# Altium schematic symbol library devices.SCHLIB: 305 symbols (part 5 of 5)
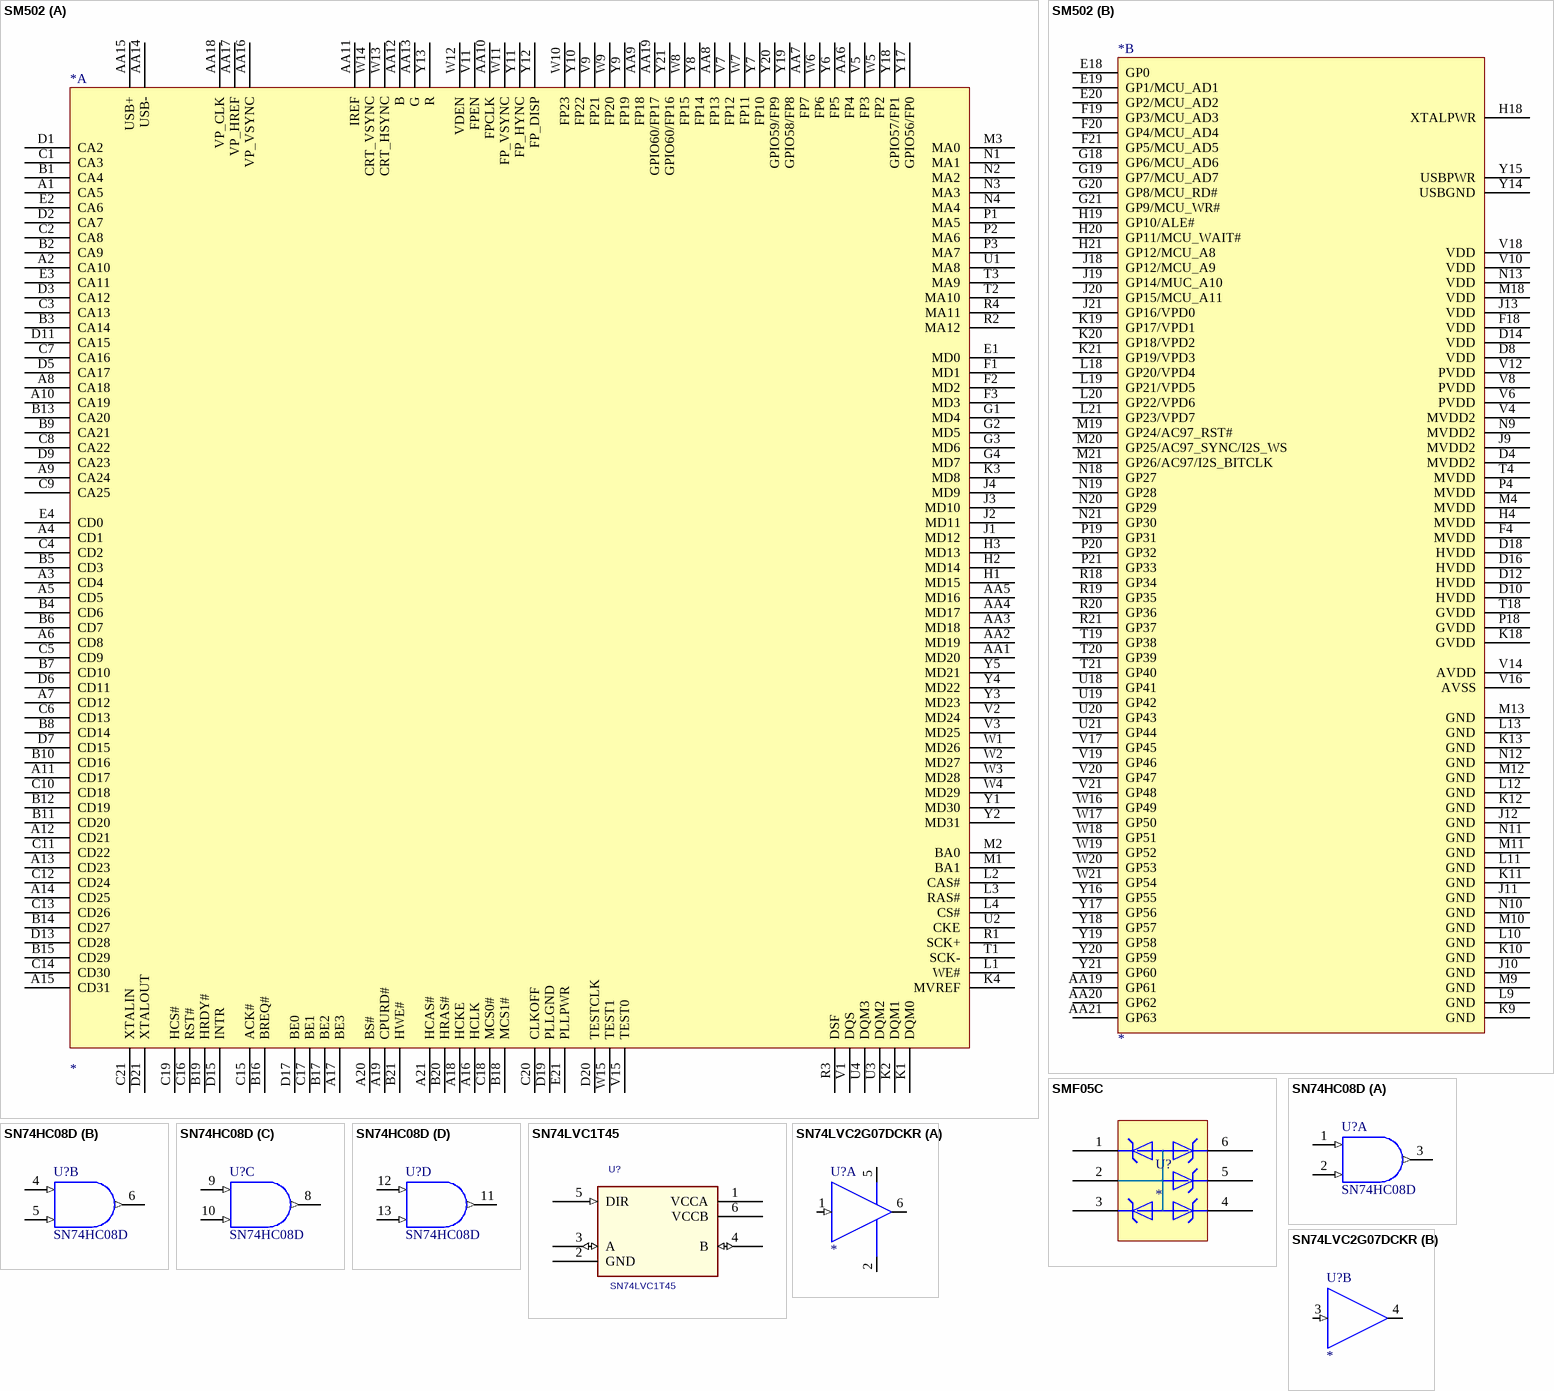
[diagram p53: symbols SM502 to SN74LVC2G07DCKR]

## SM502
designator *
part A pins: A1 CA5, A2 CA10, A3 CD4, A4 CD1, A5 CD5, A6 CD8, A7 CD12, A8 CA18, A9 CA24, A10 CA19, A11 CD17, A12 CD21, A13 CD23, A14 CD25, A15 CD31, A16 HCLK, A17 BE3, A18 HCKE, A19 CPURD#, A20 BS#, A21 HCAS#, AA1 MD20, AA2 MD19, AA3 MD18, AA4 MD17, AA5 MD16, AA6 FP4, AA7 FP7, AA8 FP13, AA9 FP18, AA10 FPCLK, AA11 IREF, AA12 B, AA13 G, AA14 USB-, AA15 USB+, AA16 VP_VSYNC, AA17 VP_HREF, AA18 VP_CLK, AA19 GPIO60/FP17, B1 CA4, B2 CA9, B3 CA14, B4 CD6, B5 CD3, B6 CD7, B7 CD10, B8 CD14, B9 CA21, B10 CD16, B11 CD20, B12 CD19, B13 CA20, B14 CD27, B15 CD29, B16 BREQ#, B17 BE2, B18 MCS1#, B19 HRDY#, B20 HRAS#, B21 HWE#, C1 CA3, C2 CA8, C3 CA13, C4 CD2, C5 CD9, C6 CD13, C7 CA16, C8 CA22, C9 CA25, C10 CD18, C11 CD22, C12 CD24, C13 CD26, C14 CD30, C15 ACK#, C16 RST#, C17 BE1, C18 MCS0#, C19 HCS#, C20 CLKOFF, C21 XTALIN, D1 CA2, D2 CA7, D3 CA12, D5 CA17, D6 CD11, D7 CD15, D9 CA23, D11 CA15, D13 CD28, D15 INTR, D17 BE0, D19 PLLGND, D20 TESTCLK, D21 XTALOUT, E1 MD0, E2 CA6, E3 CA11, E4 CD0, E21 PLLPWR, F1 MD1, F2 MD2, F3 MD3, G1 MD4, G2 MD5, G3 MD6, G4 MD7, H1 MD15, H2 MD14, H3 MD13, J1 MD12, J2 MD11, J3 MD10, J4 MD9, K1 DQM0, K2 DQM1, K3 MD8, K4 MVREF, L1 WE#, L2 CAS#, L3 RAS#, L4 CS#, M1 BA1, M2 BA0, M3 MA0, N1 MA1, N2 MA2, N3 MA3, N4 MA4, P1 MA5, P2 MA6, P3 MA7, R1 SCK+, R2 MA12, R3 DSF, R4 MA11, T1 SCK-, T2 MA10, T3 MA9, U1 MA8, U2 CKE, U3 DQM2, U4 DQM3, V1 DQS, V2 MD24, V3 MD25, V5 FP3, V7 FP12, V9 FP21, V11 FPEN, V15 TEST0, W1 MD26, W2 MD27, W3 MD28, W4 MD29, W5 FP2, W6 FP6, W7 FP11, W8 FP15, W9 FP20, W10 FP23, W11 FP_VSYNC, W12 VDEN, W13 CRT_HSYNC, W14 CRT_VSYNC, W15 TEST1, Y1 MD30, Y2 MD31, Y3 MD23, Y4 MD22, Y5 MD21, Y6 FP5, Y7 FP10, Y8 FP14, Y9 FP19, Y10 FP22, Y11 FP_HYNC, Y12 FP_DISP, Y13 R, Y17 GPIO56/FP0, Y18 GPIO57/FP1, Y19 GPIO58/FP8, Y20 GPIO59/FP9, Y21 GPIO60/FP16
part B pins: AA19 GP61, AA20 GP62, AA21 GP63, D4 MVDD2, D8 VDD, D10 HVDD, D12 HVDD, D14 VDD, D16 HVDD, D18 HVDD, E18 GP0, E19 GP1/MCU_AD1, E20 GP2/MCU_AD2, F4 MVDD, F18 VDD, F19 GP3/MCU_AD3, F20 GP4/MCU_AD4, F21 GP5/MCU_AD5, G18 GP6/MCU_AD6, G19 GP7/MCU_AD7, G20 GP8/MCU_RD#, G21 GP9/MCU_WR#, H4 MVDD, H18 XTALPWR, H19 GP10/ALE#, H20 GP11/MCU_WAIT#, H21 GP12/MCU_A8, J9 MVDD2, J10 GND, J11 GND, J12 GND, J13 VDD, J18 GP12/MCU_A9, J19 GP14/MUC_A10, J20 GP15/MCU_A11, J21 GP16/VPD0, K9 GND, K10 GND, K11 GND, K12 GND, K13 GND, K18 GVDD, K19 GP17/VPD1, K20 GP18/VPD2, K21 GP19/VPD3, L9 GND, L10 GND, L11 GND, L12 GND, L13 GND, L18 GP20/VPD4, L19 GP21/VPD5, L20 GP22/VPD6, L21 GP23/VPD7, M4 MVDD, M9 GND, M10 GND, M11 GND, M12 GND, M13 GND, M18 VDD, M19 GP24/AC97_RST#, M20 GP25/AC97_SYNC/I2S_WS, M21 GP26/AC97/I2S_BITCLK, N9 MVDD2, N10 GND, N11 GND, N12 GND, N13 VDD, N18 GP27, N19 GP28, N20 GP29, N21 GP30, P4 MVDD, P18 GVDD, P19 GP31, P20 GP32, P21 GP33, R18 GP34, R19 GP35, R20 GP36, R21 GP37, T4 MVDD, T18 GVDD, T19 GP38, T20 GP39, T21 GP40, U18 GP41, U19 GP42, U20 GP43, U21 GP44, V4 MVDD2, V6 PVDD, V8 PVDD, V10 VDD, V12 PVDD, V14 AVDD, V16 AVSS, V17 GP45, V18 VDD, V19 GP46, V20 GP47, V21 GP48, W16 GP49, W17 GP50, W18 GP51, W19 GP52, W20 GP53, W21 GP54, Y14 USBGND, Y15 USBPWR, Y16 GP55, Y17 GP56, Y18 GP57, Y19 GP58, Y20 GP59, Y21 GP60

## SMF05C
designator U?
pins: 1, 2, 3, 4, 5, 6

## SN74HC08D
designator U?
Quadruple 2-Input Positive-AND Gate; Published: 8-Jun-2000; LatestRevisionDate: 13-Apr-2006; LatestRevisionNote: IPC-7351 Footprint Added.; DatasheetVersion: May-1997; PackageVersion: Jan-1998; PackageReference: D014; Publisher: Altium Limited; PackageDescription: 14-Pin Small Outline Integrated Circuit 1.27 mm Pitch; Code_IPC: SOIC127P600-14; ComponentLink1Description: Manufacturer Link; ComponentLink1URL: http://www.ti.com/; ComponentLink2Description: Datasheet; ComponentLink2URL: http://www-s.ti.com/sc/ds/SN74HC08.pdf
footprint D014_N (SOIC, 14-Leads, Body 8.7x3.9mm, Pitch 1.27mm, IPC Medium Density)
footprint D014_L (SOIC, 14-Leads, Body 8.7x3.9mm, Pitch 1.27mm, IPC High Density)
footprint D014_M (SOIC, 14-Leads, Body 8.7x3.9mm, Pitch 1.27mm, IPC Low Density)
3D model D014 (14-Pin Small Outline Integrated Circuit 1.27 mm Pitch)
signal-integrity model SN74HC08D
pins on every part: 7 GND (power) hidden to GND, 14 VCC (power) hidden to VCC
part A pins: 1 A (in), 2 B (in), 3 Y (out)
part B pins: 4 A (in), 5 B (in), 6 Y (out)
part C pins: 8 Y (out), 9 A (in), 10 B (in)
part D pins: 11 Y (out), 12 A (in), 13 B (in)

## SN74LVC1T45
designator U?
IC XCVR 1BIT 1.65-5.5V; AGILE_PN: 312-75172; MFG_NAME01: TEXAS INSTRUMENTS; MFG_PN01: SN74LVC1T45DCKR; CAD_APPROVED: Yes; ROHS: Yes; HEIGHT: 1.1MM
pins: 1 VCCA (power), 2 GND (power), 3 A (io), 4 B (io), 5 DIR (in), 6 VCCB (power)

## SN74LVC2G07DCKR
designator U?
TN: 252-0271-000; CLASS: IC
footprint TBD
part A pins: 1 1A (in), 2 GND (power), 5 VCC (power), 6 1Y (oc)
part B pins: 3 2A (in), 4 2Y (oc)

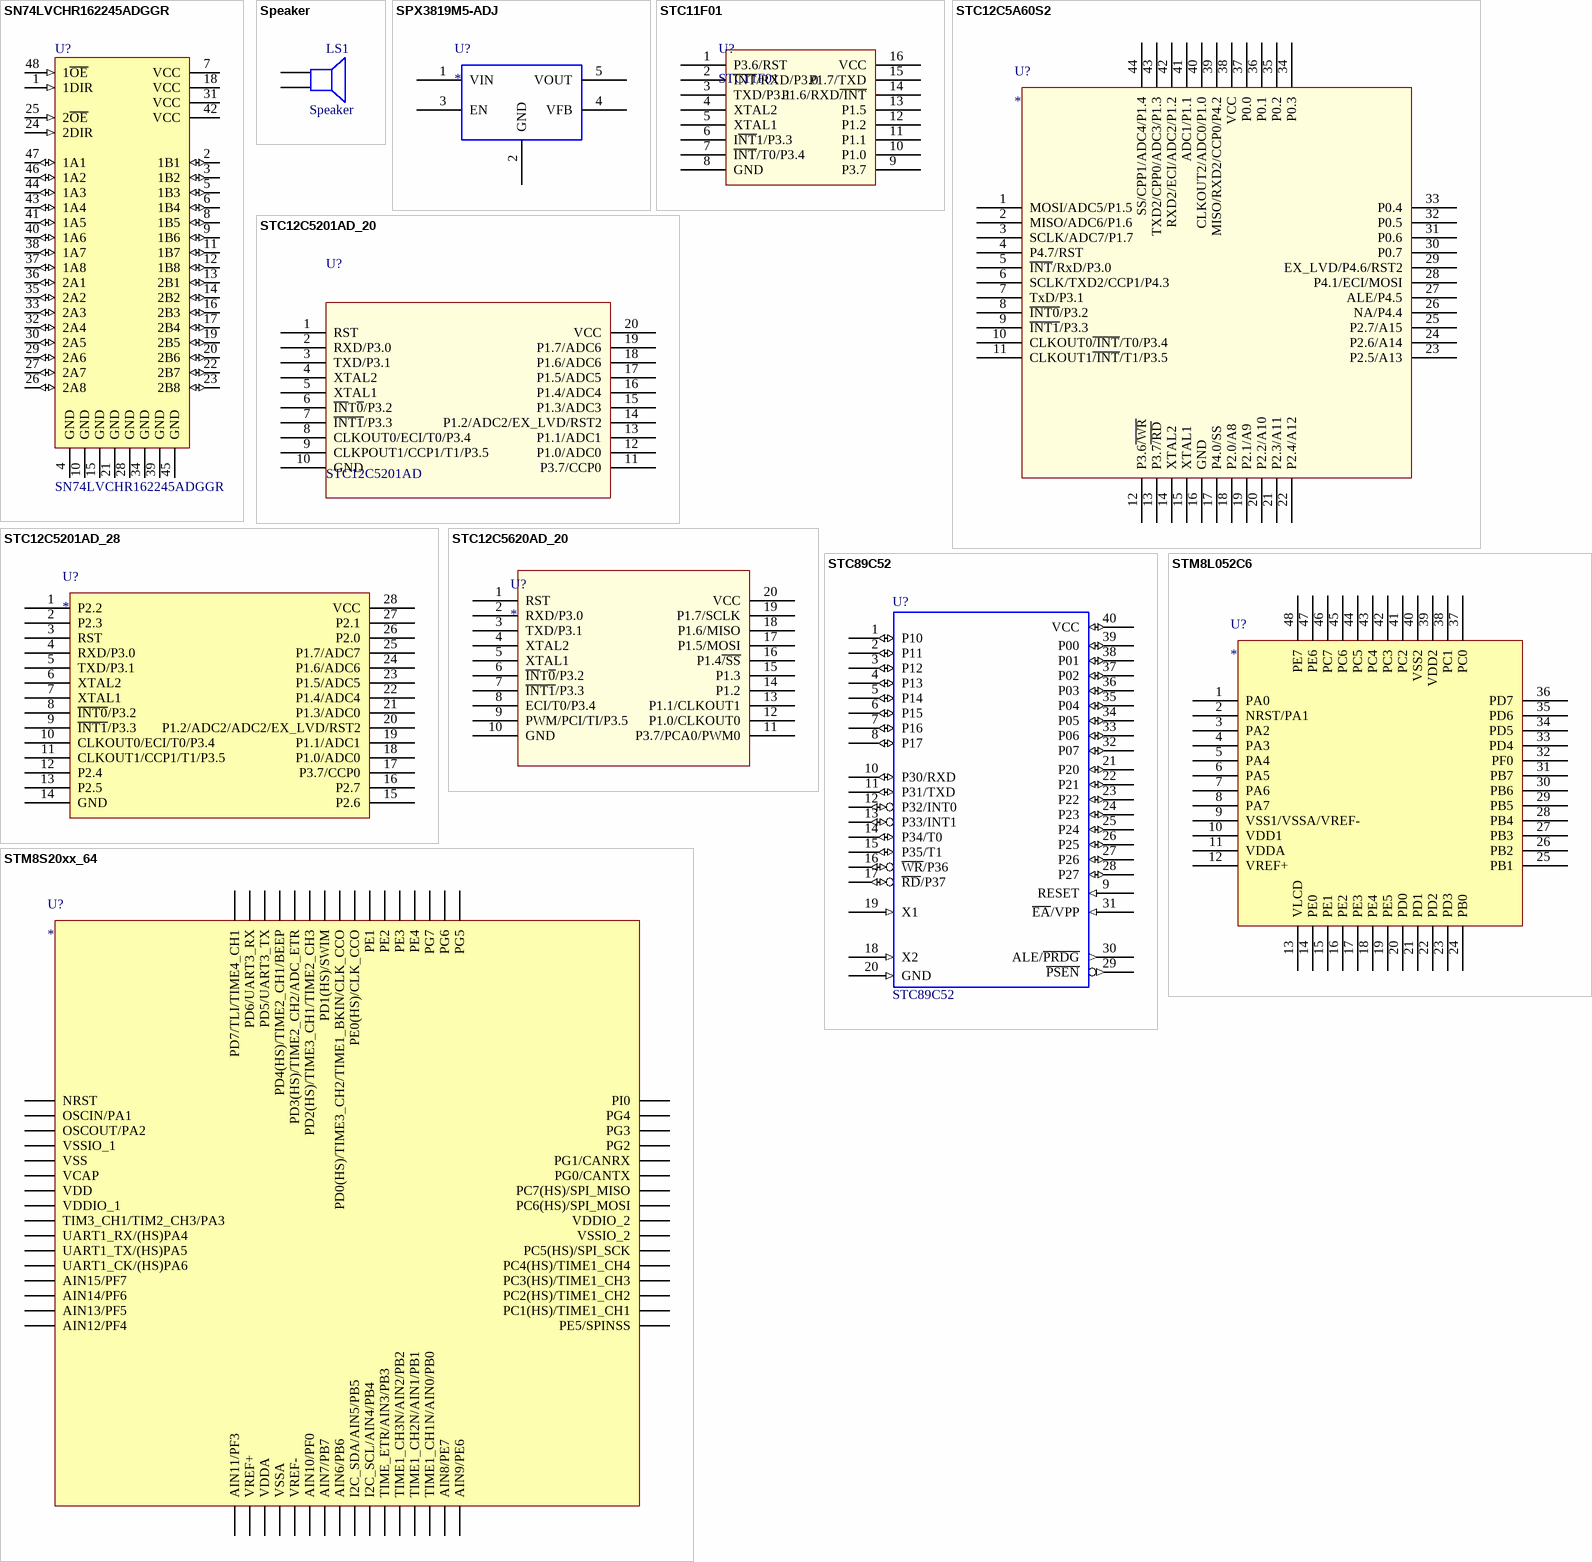
[diagram p42: symbols SN74LVCHR162245ADGGR to STM8S20xx_64]

## SN74LVCHR162245ADGGR
designator U?
16-Bit Bus Transceiver with 3-State Outputs; Published: 8-Jun-2000; LatestRevisionDate: 4-Mar-2005; LatestRevisionNote: Stylized 3D Model Added.; DatasheetDocument: Jun-1998; PackageDocument: Jan-1998; PackageReference: DGG048; Publisher: Altium Limited; ComponentLink1Description: Manufacturer Link; ComponentLink1URL: http://www.ti.com/
footprint DGG048 (Shrink Small Outline; 48 Leads; Body Width 6.1 mm; Pitch 0.5 mm)
3D model DGG048 (Shrink Small Outline; 48 Leads; Body Width 6.1 mm; Pitch 0.5 mm)
pins: 1 1DIR (in), 2 1B1 (io), 3 1B2 (io), 4 GND (power), 5 1B3 (io), 6 1B4 (io), 7 VCC (power), 8 1B5 (io), 9 1B6 (io), 10 GND (power), 11 1B7 (io), 12 1B8 (io), 13 2B1 (io), 14 2B2 (io), 15 GND (power), 16 2B3 (io), 17 2B4 (io), 18 VCC (power), 19 2B5 (io), 20 2B6 (io), 21 GND (power), 22 2B7 (io), 23 2B8 (io), 24 2DIR (in), 25 2~{OE} (in), 26 2A8 (io), 27 2A7 (io), 28 GND (power), 29 2A6 (io), 30 2A5 (io), 31 VCC (power), 32 2A4 (io), 33 2A3 (io), 34 GND (power), 35 2A2 (io), 36 2A1 (io), 37 1A8 (io), 38 1A7 (io), 39 GND (power), 40 1A6 (io), 41 1A5 (io), 42 VCC (power), 43 1A4 (io), 44 1A3 (io), 45 GND (power), 46 1A2 (io), 47 1A1 (io), 48 1~{OE} (in)

## Speaker
designator LS1
KTT-8530D-03627; Published: 24-Mar-1999; LatestRevisionDate: 17-Jul-2002; LatestRevisionNote: Re-released for DXP Platform.; PackageReference: PIN2; Publisher: Altium Limited
footprint SPEAKER
pins: 1, 2

## SPX3819M5-ADJ
designator U?
pins: 1 VIN, 2 GND, 3 EN, 4 VFB, 5 VOUT

## STC11F01
designator U?
footprint SOP-16_L (16-Pin Small Outline Integrated Circuit 1.27 mm Pitch, IPC High Density)
pins: 1 P3.6/RST, 2 ~{INT}/RXD/P3.0, 3 TXD/P3.1, 4 XTAL2, 5 XTAL1, 6 I~{NT}1/P3.3, 7 ~{INT}/T0/P3.4, 8 GND, 9 P3.7, 10 P1.0, 11 P1.1, 12 P1.2, 13 P1.5, 14 P1.6/RXD~{/INT}, 15 P1.7/TXD, 16 VCC

## STC12C5A60S2
designator U?
pins: 1 MOSI/ADC5/P1.5, 2 MISO/ADC6/P1.6, 3 SCLK/ADC7/P1.7, 4 P4.7/RST, 5 ~{INT}/RxD/P3.0, 6 SCLK/TXD2/CCP1/P4.3, 7 TxD/P3.1, 8 ~{INT0}/P3.2, 9 ~{INT1}/P3.3, 10 CLKOUT0~{/INT}/T0/P3.4, 11 CLKOUT1~{/INT}/T1/P3.5, 12 P3.6~{/WR}, 13 P3.7~{/RD}, 14 XTAL2, 15 XTAL1, 16 GND, 17 P4.0/SS, 18 P2.0/A8, 19 P2.1/A9, 20 P2.2/A10, 21 P2.3/A11, 22 P2.4/A12, 23 P2.5/A13, 24 P2.6/A14, 25 P2.7/A15, 26 NA/P4.4, 27 ALE/P4.5, 28 P4.1/ECI/MOSI, 29 EX_LVD/P4.6/RST2, 30 P0.7, 31 P0.6, 32 P0.5, 33 P0.4, 34 P0.3, 35 P0.2, 36 P0.1, 37 P0.0, 38 VCC, 39 MISO/RXD2/CCP0/P4.2, 40 CLKOUT2/ADC0/P1.0, 41 ADC1/P1.1, 42 RXD2/ECI/ADC2/P1.2, 43 TXD2/CPP0/ADC3/P1.3, 44 SS/CPP1/ADC4/P1.4

## STC12C5201AD_20
designator U?, comment STC12C5201AD
pins: 1 RST, 2 RXD/P3.0, 3 TXD/P3.1, 4 XTAL2, 5 XTAL1, 6 ~{IN}T~{0}/P3.2, 7 ~{INT1}/P3.3, 8 CLKOUT0/ECI/T0/P3.4, 9 CLKPOUT1/CCP1/T1/P3.5, 10 GND, 11 P3.7/CCP0, 12 P1.0/ADC0, 13 P1.1/ADC1, 14 P1.2/ADC2/EX_LVD/RST2, 15 P1.3/ADC3, 16 P1.4/ADC4, 17 P1.5/ADC5, 18 P1.6/ADC6, 19 P1.7/ADC6, 20 VCC

## STC12C5201AD_28
designator U?
pins: 1 P2.2, 2 P2.3, 3 RST, 4 RXD/P3.0, 5 TXD/P3.1, 6 XTAL2, 7 XTAL1, 8 ~{INT0}/P3.2, 9 ~{INT1}/P3.3, 10 CLKOUT0/ECI/T0/P3.4, 11 CLKOUT1/CCP1/T1/P3.5, 12 P2.4, 13 P2.5, 14 GND, 15 P2.6, 16 P2.7, 17 P3.7/CCP0, 18 P1.0/ADC0, 19 P1.1/ADC1, 20 P1.2/ADC2/ADC2/EX_LVD/RST2, 21 P1.3/ADC0, 22 P1.4/ADC4, 23 P1.5/ADC5, 24 P1.6/ADC6, 25 P1.7/ADC7, 26 P2.0, 27 P2.1, 28 VCC

## STC12C5620AD_20
designator U?
pins: 1 RST, 2 RXD/P3.0, 3 TXD/P3.1, 4 XTAL2, 5 XTAL1, 6 ~{IN}T~{0}/P3.2, 7 ~{INT1}/P3.3, 8 ECI/T0/P3.4, 9 PWM/PCI/TI/P3.5, 10 GND, 11 P3.7/PCA0/PWM0, 12 P1.0/CLKOUT0, 13 P1.1/CLKOUT1, 14 P1.2, 15 P1.3, 16 P1.4~{/SS}, 17 P1.5/MOSI, 18 P1.6/MISO, 19 P1.7/SCLK, 20 VCC

## STC89C52
designator U?
pins: 1 P10 (io), 2 P11 (io), 3 P12 (io), 4 P13 (io), 5 P14 (io), 6 P15 (io), 7 P16 (io), 8 P17 (io), 9 RESET (in), 10 P30/RXD (io), 11 P31/TXD (io), 12 P32/INT0 (io), 13 P33/INT1 (io), 14 P34/T0 (io), 15 P35/T1 (io), 16 ~{WR}/P36 (io), 17 ~{RD}/P37 (io), 18 X2 (in), 19 X1 (in), 20 GND (in), 21 P20 (io), 22 P21 (io), 23 P22 (io), 24 P23 (io), 25 P24 (io), 26 P25 (io), 27 P26 (io), 28 P27 (io), 29 ~{PSEN} (out), 30 ALE/~{PRDG} (out), 31 ~{EA}/VPP (in), 32 P07 (io), 33 P06 (io), 34 P05 (io), 35 P04 (io), 36 P03 (io), 37 P02 (io), 38 P01 (io), 39 P00 (io), 40 VCC (io)

## STM8L052C6
designator U?
pins: 1 PA0, 2 NRST/PA1, 3 PA2, 4 PA3, 5 PA4, 6 PA5, 7 PA6, 8 PA7, 9 VSS1/VSSA/VREF-, 10 VDD1, 11 VDDA, 12 VREF+, 13 VLCD, 14 PE0, 15 PE1, 16 PE2, 17 PE3, 18 PE4, 19 PE5, 20 PD0, 21 PD1, 22 PD2, 23 PD3, 24 PB0, 25 PB1, 26 PB2, 27 PB3, 28 PB4, 29 PB5, 30 PB6, 31 PB7, 32 PF0, 33 PD4, 34 PD5, 35 PD6, 36 PD7, 37 PC0, 38 PC1, 39 VDD2, 40 VSS2, 41 PC2, 42 PC3, 43 PC4, 44 PC5, 45 PC6, 46 PC7, 47 PE6, 48 PE7

## STM8S20xx_64
designator U?
pins: 1 NRST, 2 OSCIN/PA1, 3 OSCOUT/PA2, 4 VSSIO_1, 5 VSS, 6 VCAP, 7 VDD, 8 VDDIO_1, 9 TIM3_CH1/TIM2_CH3/PA3, 10 UART1_RX/(HS)PA4, 11 UART1_TX/(HS)PA5, 12 UART1_CK/(HS)PA6, 13 AIN15/PF7, 14 AIN14/PF6, 15 AIN13/PF5, 16 AIN12/PF4, 17 AIN11/PF3, 18 VREF+, 19 VDDA, 20 VSSA, 21 VREF-, 22 AIN10/PF0, 23 AIN7/PB7, 24 AIN6/PB6, 25 I2C_SDA/AIN5/PB5, 26 I2C_SCL/AIN4/PB4, 27 TIME_ETR/AIN3/PB3, 28 TIME1_CH3N/AIN2/PB2, 29 TIME1_CH2N/AIN1/PB1, 30 TIME1_CH1N/AIN0/PB0, 31 AIN8/PE7, 32 AIN9/PE6, 33 PE5/SPINSS, 34 PC1(HS)/TIME1_CH1, 35 PC2(HS)/TIME1_CH2, 36 PC3(HS)/TIME1_CH3, 37 PC4(HS)/TIME1_CH4, 38 PC5(HS)/SPI_SCK, 39 VSSIO_2, 40 VDDIO_2, 41 PC6(HS)/SPI_MOSI, 42 PC7(HS)/SPI_MISO, 43 PG0/CANTX, 44 PG1/CANRX, 45 PG2, 46 PG3, 47 PG4, 48 PI0, 49 PG5, 50 PG6, 51 PG7, 52 PE4, 53 PE3, 54 PE2, 55 PE1, 56 PE0(HS)/CLK_CCO, 57 PD0(HS)/TIME3_CH2/TIME1_BKIN/CLK_CCO, 58 PD1(HS)/SWIM, 59 PD2(HS)/TIME3_CH1/TIME2_CH3, 60 PD3(HS)/TIME2_CH2/ADC_ETR, 61 PD4(HS)/TIME2_CH1/BEEP, 62 PD5/UART3_TX, 63 PD6/UART3_RX, 64 PD7/TLI/TIME4_CH1

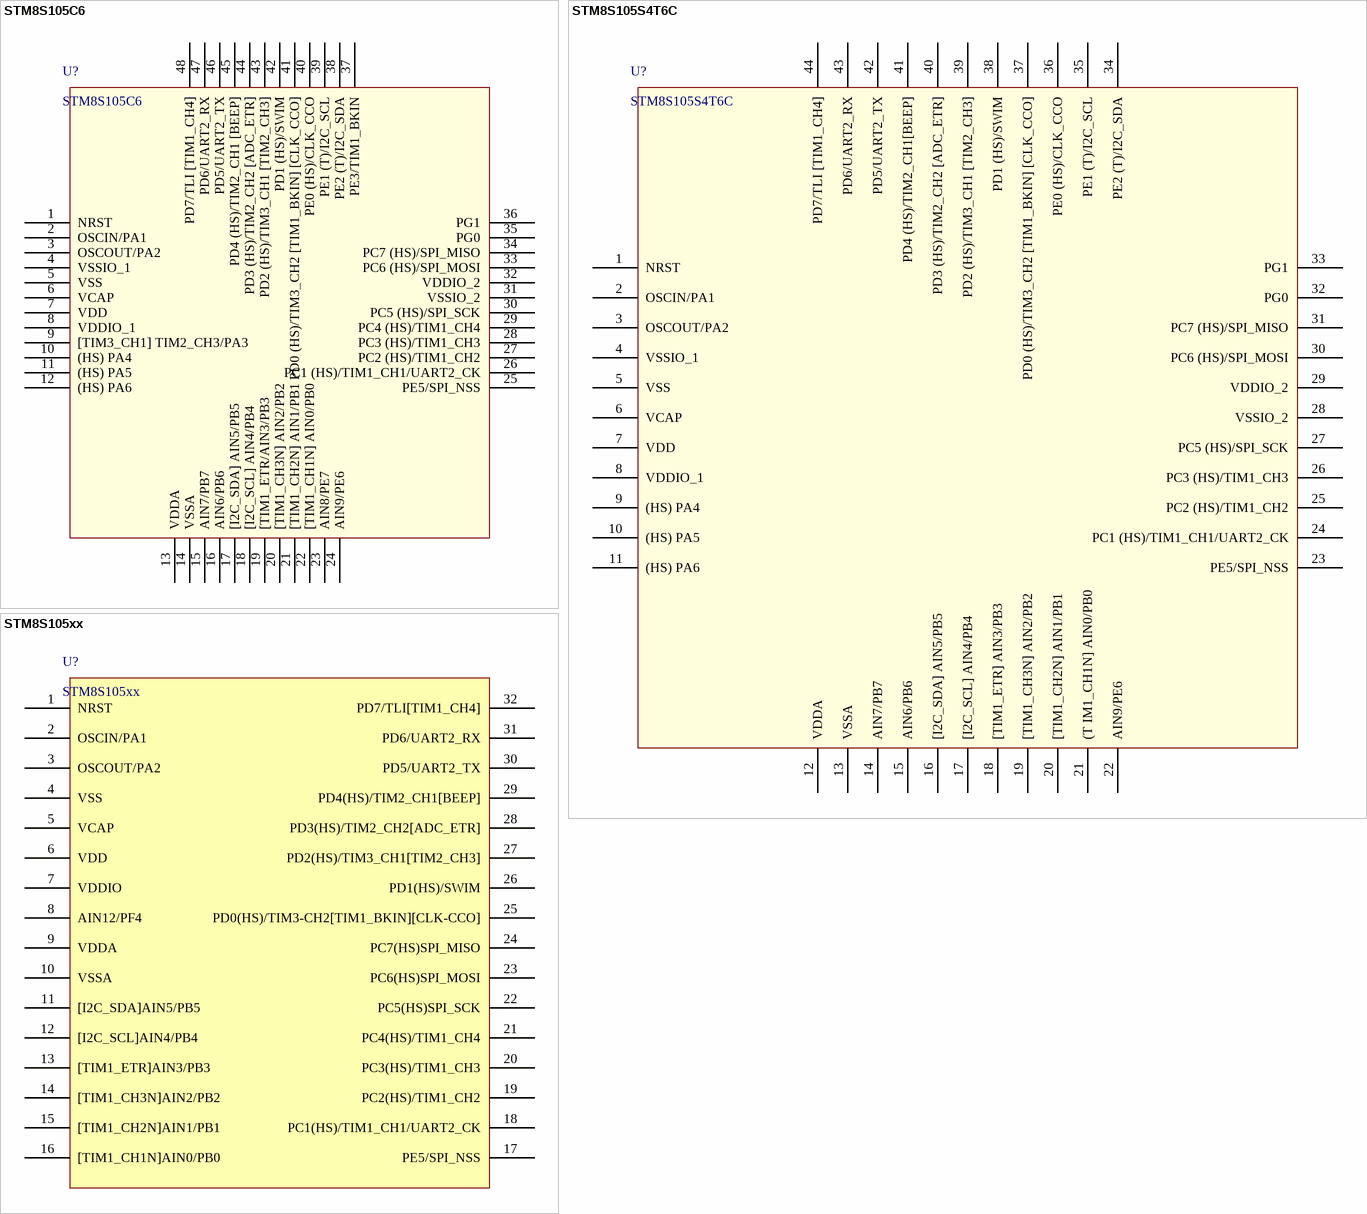
[diagram p43: symbols STM8S105C6 to STM8S105xx]

## STM8S105C6
designator U?
pins: 1 NRST, 2 OSCIN/PA1, 3 OSCOUT/PA2, 4 VSSIO_1, 5 VSS, 6 VCAP, 7 VDD, 8 VDDIO_1, 9 [TIM3_CH1] TIM2_CH3/PA3, 10 (HS) PA4, 11 (HS) PA5, 12 (HS) PA6, 13 VDDA, 14 VSSA, 15 AIN7/PB7, 16 AIN6/PB6, 17 [I2C_SDA] AIN5/PB5, 18 [I2C_SCL] AIN4/PB4, 19 [TIM1_ETR/AIN3/PB3, 20 [TIM1_CH3N] AIN2/PB2, 21 [TIM1_CH2N] AIN1/PB1, 22 [TIM1_CH1N] AIN0/PB0, 23 AIN8/PE7, 24 AIN9/PE6, 25 PE5/SPI_NSS, 26 PC1 (HS)/TIM1_CH1/UART2_CK, 27 PC2 (HS)/TIM1_CH2, 28 PC3 (HS)/TIM1_CH3, 29 PC4 (HS)/TIM1_CH4, 30 PC5 (HS)/SPI_SCK, 31 VSSIO_2, 32 VDDIO_2, 33 PC6 (HS)/SPI_MOSI, 34 PC7 (HS)/SPI_MISO, 35 PG0, 36 PG1, 37 PE3/TIM1_BKIN, 38 PE2 (T)/I2C_SDA, 39 PE1 (T)/I2C_SCL, 40 PE0 (HS)/CLK_CCO, 41 PD0 (HS)/TIM3_CH2 [TIM1_BKIN] [CLK_CCO], 42 PD1 (HS)/SWIM, 43 PD2 (HS)/TIM3_CH1 [TIM2_CH3], 44 PD3 (HS)/TIM2_CH2 [ADC_ETR], 45 PD4 (HS)/TIM2_CH1 [BEEP], 46 PD5/UART2_TX, 47 PD6/UART2_RX, 48 PD7/TLI [TIM1_CH4]

## STM8S105S4T6C
designator U?
pins: 1 NRST, 2 OSCIN/PA1, 3 OSCOUT/PA2, 4 VSSIO_1, 5 VSS, 6 VCAP, 7 VDD, 8 VDDIO_1, 9 (HS) PA4, 10 (HS) PA5, 11 (HS) PA6, 12 VDDA, 13 VSSA, 14 AIN7/PB7, 15 AIN6/PB6, 16 [I2C_SDA] AIN5/PB5, 17 [I2C_SCL] AIN4/PB4, 18 [TIM1_ETR] AIN3/PB3, 19 [TIM1_CH3N] AIN2/PB2, 20 [TIM1_CH2N] AIN1/PB1, 21 (T IM1_CH1N] AIN0/PB0, 22 AIN9/PE6, 23 PE5/SPI_NSS, 24 PC1 (HS)/TIM1_CH1/UART2_CK, 25 PC2 (HS)/TIM1_CH2, 26 PC3 (HS)/TIM1_CH3, 27 PC5 (HS)/SPI_SCK, 28 VSSIO_2, 29 VDDIO_2, 30 PC6 (HS)/SPI_MOSI, 31 PC7 (HS)/SPI_MISO, 32 PG0, 33 PG1, 34 PE2 (T)/I2C_SDA, 35 PE1 (T)/I2C_SCL, 36 PE0 (HS)/CLK_CCO, 37 PD0 (HS)/TIM3_CH2 [TIM1_BKIN] [CLK_CCO], 38 PD1 (HS)/SWIM, 39 PD2 (HS)/TIM3_CH1 [TIM2_CH3], 40 PD3 (HS)/TIM2_CH2 [ADC_ETR], 41 PD4 (HS)/TIM2_CH1[BEEP], 42 PD5/UART2_TX, 43 PD6/UART2_RX, 44 PD7/TLI [TIM1_CH4]

## STM8S105xx
designator U?
pins: 1 NRST, 2 OSCIN/PA1, 3 OSCOUT/PA2, 4 VSS, 5 VCAP, 6 VDD, 7 VDDIO, 8 AIN12/PF4, 9 VDDA, 10 VSSA, 11 [I2C_SDA]AIN5/PB5, 12 [I2C_SCL]AIN4/PB4, 13 [TIM1_ETR]AIN3/PB3, 14 [TIM1_CH3N]AIN2/PB2, 15 [TIM1_CH2N]AIN1/PB1, 16 [TIM1_CH1N]AIN0/PB0, 17 PE5/SPI_NSS, 18 PC1(HS)/TIM1_CH1/UART2_CK, 19 PC2(HS)/TIM1_CH2, 20 PC3(HS)/TIM1_CH3, 21 PC4(HS)/TIM1_CH4, 22 PC5(HS)SPI_SCK, 23 PC6(HS)SPI_MOSI, 24 PC7(HS)SPI_MISO, 25 PD0(HS)/TIM3-CH2[TIM1_BKIN][CLK-CCO], 26 PD1(HS)/SWIM, 27 PD2(HS)/TIM3_CH1[TIM2_CH3], 28 PD3(HS)/TIM2_CH2[ADC_ETR], 29 PD4(HS)/TIM2_CH1[BEEP], 30 PD5/UART2_TX, 31 PD6/UART2_RX, 32 PD7/TLI[TIM1_CH4]

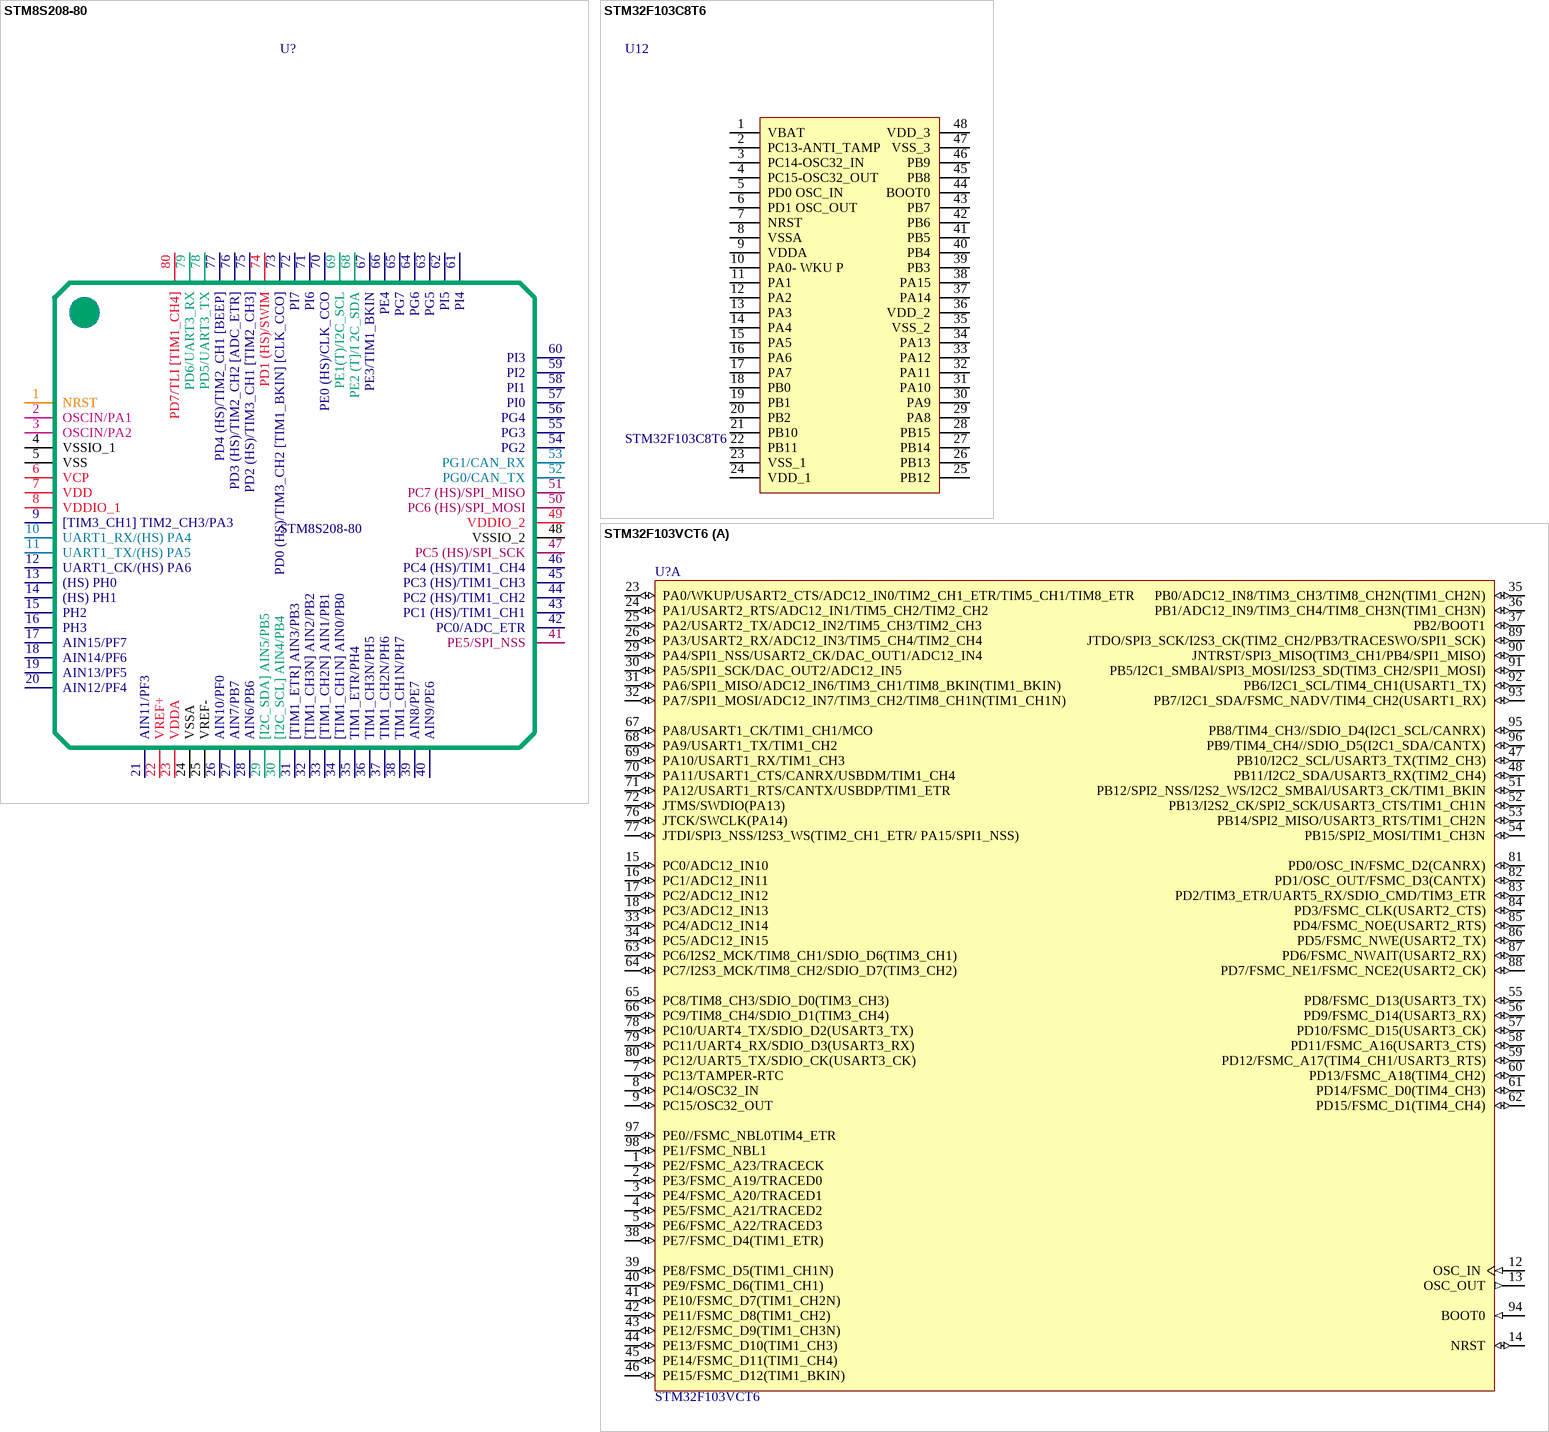
[diagram p44: symbols STM8S208-80 to STM32F103VCT6]

## STM8S208-80
designator U?
footprint LQFP-80
pins: 1 NRST, 2 OSCIN/PA1, 3 OSCIN/PA2, 4 VSSIO_1, 5 VSS, 6 VCP, 7 VDD, 8 VDDIO_1, 9 [TIM3_CH1] TIM2_CH3/PA3, 10 UART1_RX/(HS) PA4, 11 UART1_TX/(HS) PA5, 12 UART1_CK/(HS) PA6, 13 (HS) PH0, 14 (HS) PH1, 15 PH2, 16 PH3, 17 AIN15/PF7, 18 AIN14/PF6, 19 AIN13/PF5, 20 AIN12/PF4, 21 AIN11/PF3, 22 VREF+, 23 VDDA, 24 VSSA, 25 VREF-, 26 AIN10/PF0, 27 AIN7/PB7, 28 AIN6/PB6, 29 [I2C_SDA] AIN5/PB5, 30 [I2C_SCL] AIN4/PB4, 31 [TIM1_ETR] AIN3/PB3, 32 [TIM1_CH3N] AIN2/PB2, 33 [TIM1_CH2N] AIN1/PB1, 34 [TIM1_CH1N] AIN0/PB0, 35 TIM1_ETR/PH4, 36 TIM1_CH3N/PH5, 37 TIM1_CH2N/PH6, 38 TIM1_CH1N/PH7, 39 AIN8/PE7, 40 AIN9/PE6, 41 PE5/SPI_NSS, 42 PC0/ADC_ETR, 43 PC1 (HS)/TIM1_CH1, 44 PC2 (HS)/TIM1_CH2, 45 PC3 (HS)/TIM1_CH3, 46 PC4 (HS)/TIM1_CH4, 47 PC5 (HS)/SPI_SCK, 48 VSSIO_2, 49 VDDIO_2, 50 PC6 (HS)/SPI_MOSI, 51 PC7 (HS)/SPI_MISO, 52 PG0/CAN_TX, 53 PG1/CAN_RX, 54 PG2, 55 PG3, 56 PG4, 57 PI0, 58 PI1, 59 PI2, 60 PI3, 61 PI4, 62 PI5, 63 PG5, 64 PG6, 65 PG7, 66 PE4, 67 PE3/TIM1_BKIN, 68 PE2 (T]/I 2C_SDA, 69 PE1(T)/I2C_SCL, 70 PE0 (HS)/CLK_CCO, 71 PI6, 72 PI7, 73 PD0 (HS)/TIM3_CH2 [TIM1_BKIN] [CLK_CCO], 74 PD1 (HS)/SWIM, 75 PD2 (HS)/TIM3_CH1 [TIM2_CH3], 76 PD3 (HS)/TIM2_CH2 [ADC_ETR], 77 PD4 (HS)/TIM2_CH1 [BEEP], 78 PD5/UART3_TX, 79 PD6/UART3_RX, 80 PD7/TLI [TIM1_CH4]

## STM32F103C8T6
designator U12
footprint QFP48_N (Thin QFP, 48-Leads, Body 7x7mm, Pitch 0.5mm, IPC Medium Density)
pins: 1 VBAT, 2 PC13-ANTI_TAMP, 3 PC14-OSC32_IN, 4 PC15-OSC32_OUT, 5 PD0 OSC_IN, 6 PD1 OSC_OUT, 7 NRST, 8 VSSA, 9 VDDA, 10 PA0- WKU P, 11 PA1, 12 PA2, 13 PA3, 14 PA4, 15 PA5, 16 PA6, 17 PA7, 18 PB0, 19 PB1, 20 PB2, 21 PB10, 22 PB11, 23 VSS_1, 24 VDD_1, 25 PB12, 26 PB13, 27 PB14, 28 PB15, 29 PA8, 30 PA9, 31 PA10, 32 PA11, 33 PA12, 34 PA13, 35 VSS_2, 36 VDD_2, 37 PA14, 38 PA15, 39 PB3, 40 PB4, 41 PB5, 42 PB6, 43 PB7, 44 BOOT0, 45 PB8, 46 PB9, 47 VSS_3, 48 VDD_3

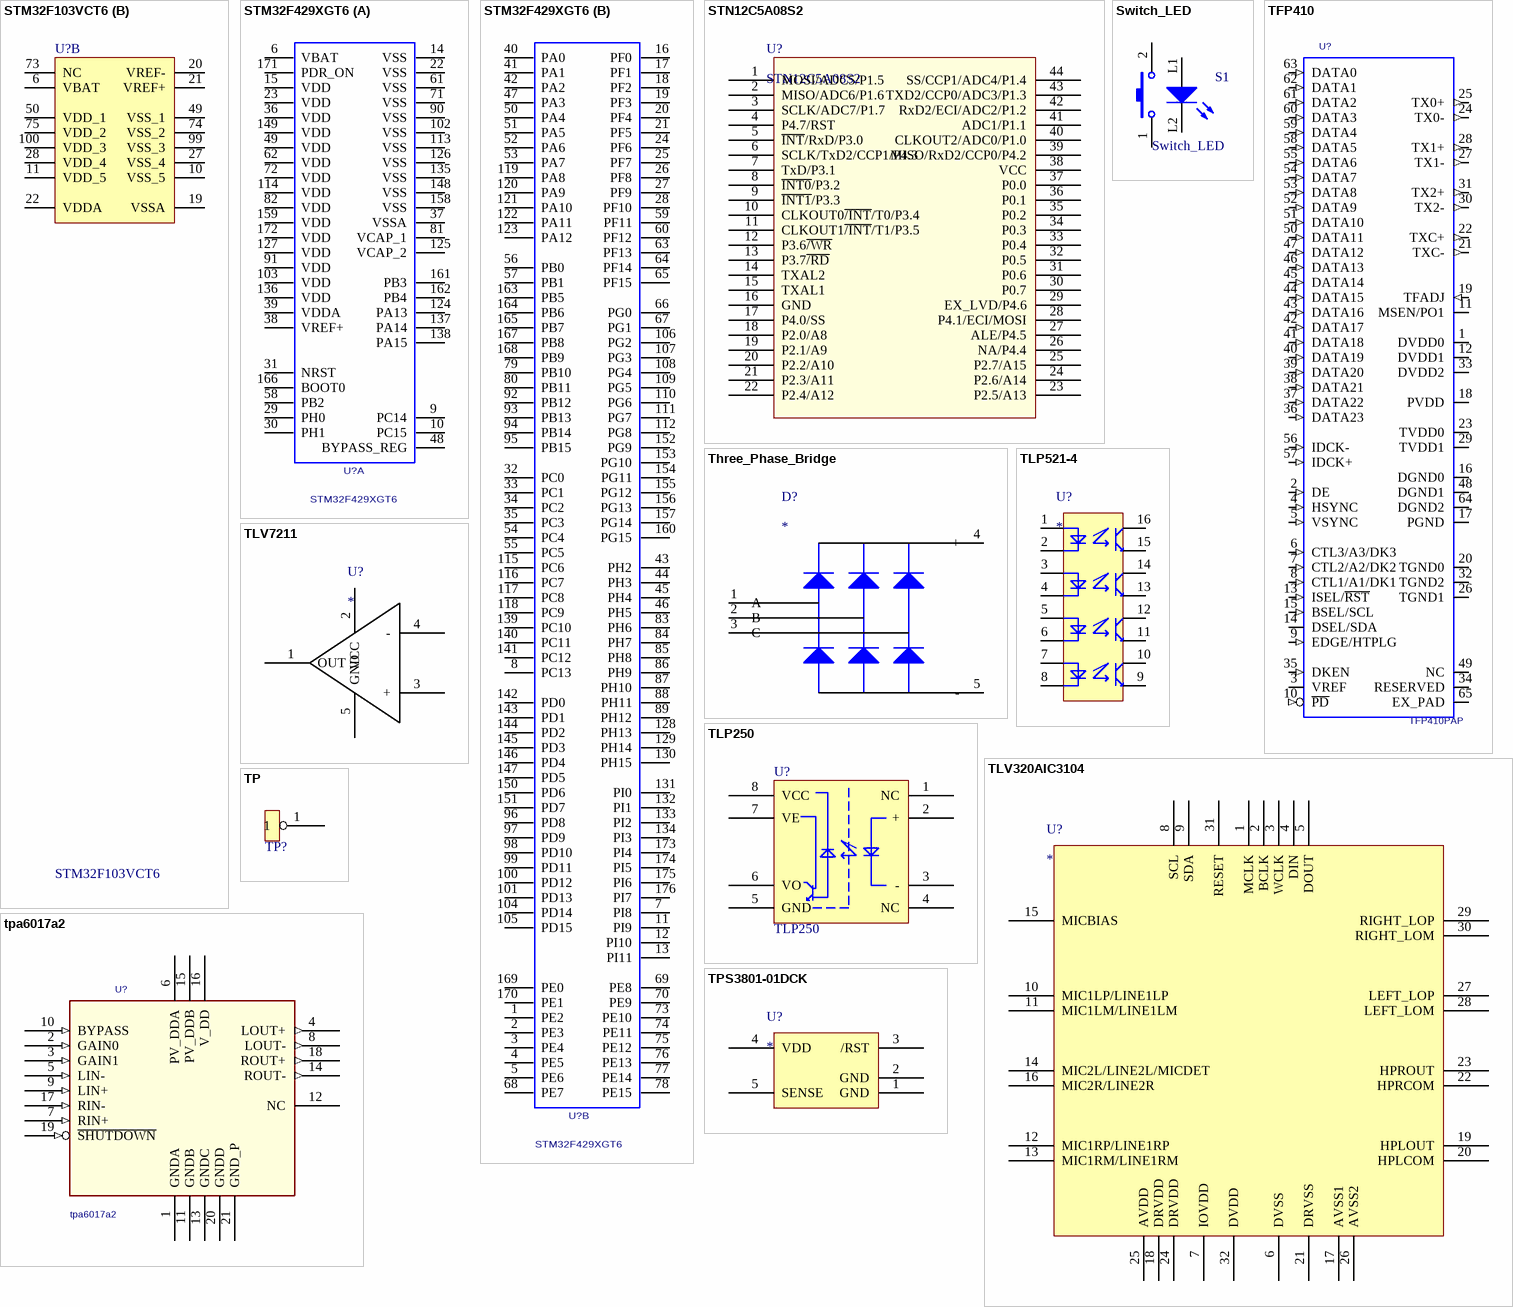
[diagram p45: symbols STM32F103VCT6 to TPS3801-01DCK]

## STM32F103VCT6
designator U?, comment value STM32F103VCT6  (hidden comment: IC)
STM32 ARM-based 32-bit MCU Performance Line with 256 kB Flash, 48 kB Internal RAM, -40 to +85癈 Temperature, 100-Pin LQFP, Tray; DatasheetVersion: rev8.0, Apr-2011; PackageVersion: rev13, Apr-2011; PackageReference: LQFP100; PackageDescription: 100-Pin Low-Profile Quad Flat Pack, 14 x 14 mm Body, 0.5 mm Pitch (LQFP100); ComponentLink1Description: Manufacturer URL; ComponentLink1URL: http://www.st.com/; ComponentLink2Description: STM32F103 Datasheet; ComponentLink2URL: http://www.st.com/internet/com/TECHNICAL_RESOURCES/TECHNICAL_LITERATURE/DATASHEET/CD00191185.pdf; ComponentLink3Description: STM32 Family Web Page; ComponentLink3URL: www.st.com/stm32
footprint LQFP100_N (Thin QFP, 100-Leads, Body 14x14mm, Pitch 0.5mm, IPC Medium Density)
footprint LQFP100_L (Thin QFP, 100-Leads, Body 14x14mm, Pitch 0.5mm, IPC High Density)
footprint LQFP100_M (Thin QFP, 100-Leads, Body 14x14mm, Pitch 0.5mm, IPC Low Density)
part A pins: 1 PE2/FSMC_A23/TRACECK (io), 2 PE3/FSMC_A19/TRACED0 (io), 3 PE4/FSMC_A20/TRACED1 (io), 4 PE5/FSMC_A21/TRACED2 (io), 5 PE6/FSMC_A22/TRACED3 (io), 7 PC13/TAMPER-RTC (io), 8 PC14/OSC32_IN (io), 9 PC15/OSC32_OUT (io), 12 OSC_IN (in), 13 OSC_OUT (out), 14 NRST (io), 15 PC0/ADC12_IN10 (io), 16 PC1/ADC12_IN11 (io), 17 PC2/ADC12_IN12 (io), 18 PC3/ADC12_IN13 (io), 23 PA0/WKUP/USART2_CTS/ADC12_IN0/TIM2_CH1_ETR/TIM5_CH1/TIM8_ETR (io), 24 PA1/USART2_RTS/ADC12_IN1/TIM5_CH2/TIM2_CH2 (io), 25 PA2/USART2_TX/ADC12_IN2/TIM5_CH3/TIM2_CH3 (io), 26 PA3/USART2_RX/ADC12_IN3/TIM5_CH4/TIM2_CH4 (io), 29 PA4/SPI1_NSS/USART2_CK/DAC_OUT1/ADC12_IN4 (io), 30 PA5/SPI1_SCK/DAC_OUT2/ADC12_IN5 (io), 31 PA6/SPI1_MISO/ADC12_IN6/TIM3_CH1/TIM8_BKIN(TIM1_BKIN) (io), 32 PA7/SPI1_MOSI/ADC12_IN7/TIM3_CH2/TIM8_CH1N(TIM1_CH1N) (io), 33 PC4/ADC12_IN14 (io), 34 PC5/ADC12_IN15 (io), 35 PB0/ADC12_IN8/TIM3_CH3/TIM8_CH2N(TIM1_CH2N) (io), 36 PB1/ADC12_IN9/TIM3_CH4/TIM8_CH3N(TIM1_CH3N) (io), 37 PB2/BOOT1 (io), 38 PE7/FSMC_D4(TIM1_ETR) (io), 39 PE8/FSMC_D5(TIM1_CH1N) (io), 40 PE9/FSMC_D6(TIM1_CH1) (io), 41 PE10/FSMC_D7(TIM1_CH2N) (io), 42 PE11/FSMC_D8(TIM1_CH2) (io), 43 PE12/FSMC_D9(TIM1_CH3N) (io), 44 PE13/FSMC_D10(TIM1_CH3) (io), 45 PE14/FSMC_D11(TIM1_CH4) (io), 46 PE15/FSMC_D12(TIM1_BKIN) (io), 47 PB10/I2C2_SCL/USART3_TX(TIM2_CH3) (io), 48 PB11/I2C2_SDA/USART3_RX(TIM2_CH4) (io), 51 PB12/SPI2_NSS/I2S2_WS/I2C2_SMBAl/USART3_CK/TIM1_BKIN (io), 52 PB13/I2S2_CK/SPI2_SCK/USART3_CTS/TIM1_CH1N (io), 53 PB14/SPI2_MISO/USART3_RTS/TIM1_CH2N (io), 54 PB15/SPI2_MOSI/TIM1_CH3N (io), 55 PD8/FSMC_D13(USART3_TX) (io), 56 PD9/FSMC_D14(USART3_RX) (io), 57 PD10/FSMC_D15(USART3_CK) (io), 58 PD11/FSMC_A16(USART3_CTS) (io), 59 PD12/FSMC_A17(TIM4_CH1/USART3_RTS) (io), 60 PD13/FSMC_A18(TIM4_CH2) (io), 61 PD14/FSMC_D0(TIM4_CH3) (io), 62 PD15/FSMC_D1(TIM4_CH4) (io), 63 PC6/I2S2_MCK/TIM8_CH1/SDIO_D6(TIM3_CH1) (io), 64 PC7/I2S3_MCK/TIM8_CH2/SDIO_D7(TIM3_CH2) (io), 65 PC8/TIM8_CH3/SDIO_D0(TIM3_CH3) (io), 66 PC9/TIM8_CH4/SDIO_D1(TIM3_CH4) (io), 67 PA8/USART1_CK/TIM1_CH1/MCO (io), 68 PA9/USART1_TX/TIM1_CH2 (io), 69 PA10/USART1_RX/TIM1_CH3 (io), 70 PA11/USART1_CTS/CANRX/USBDM/TIM1_CH4 (io), 71 PA12/USART1_RTS/CANTX/USBDP/TIM1_ETR (io), 72 JTMS/SWDIO(PA13) (io), 76 JTCK/SWCLK(PA14) (io), 77 JTDI/SPI3_NSS/I2S3_WS(TIM2_CH1_ETR/ PA15/SPI1_NSS) (io), 78 PC10/UART4_TX/SDIO_D2(USART3_TX) (io), 79 PC11/UART4_RX/SDIO_D3(USART3_RX) (io), 80 PC12/UART5_TX/SDIO_CK(USART3_CK) (io), 81 PD0/OSC_IN/FSMC_D2(CANRX) (io), 82 PD1/OSC_OUT/FSMC_D3(CANTX) (io), 83 PD2/TIM3_ETR/UART5_RX/SDIO_CMD/TIM3_ETR (io), 84 PD3/FSMC_CLK(USART2_CTS) (io), 85 PD4/FSMC_NOE(USART2_RTS) (io), 86 PD5/FSMC_NWE(USART2_TX) (io), 87 PD6/FSMC_NWAIT(USART2_RX) (io), 88 PD7/FSMC_NE1/FSMC_NCE2(USART2_CK) (io), 89 JTDO/SPI3_SCK/I2S3_CK(TIM2_CH2/PB3/TRACESWO/SPI1_SCK) (io), 90 JNTRST/SPI3_MISO(TIM3_CH1/PB4/SPI1_MISO) (io), 91 PB5/I2C1_SMBAl/SPI3_MOSI/I2S3_SD(TIM3_CH2/SPI1_MOSI) (io), 92 PB6/I2C1_SCL/TIM4_CH1(USART1_TX) (io), 93 PB7/I2C1_SDA/FSMC_NADV/TIM4_CH2(USART1_RX) (io), 94 BOOT0 (in), 95 PB8/TIM4_CH3//SDIO_D4(I2C1_SCL/CANRX) (io), 96 PB9/TIM4_CH4//SDIO_D5(I2C1_SDA/CANTX) (io), 97 PE0//FSMC_NBL0TIM4_ETR (io), 98 PE1/FSMC_NBL1 (io)
part B pins: 6 VBAT (power), 10 VSS_5 (power), 11 VDD_5 (power), 19 VSSA (power), 20 VREF- (power), 21 VREF+ (power), 22 VDDA (power), 27 VSS_4 (power), 28 VDD_4 (power), 49 VSS_1 (power), 50 VDD_1 (power), 73 NC, 74 VSS_2 (power), 75 VDD_2 (power), 99 VSS_3 (power), 100 VDD_3 (power)

## STM32F429XGT6
designator U?
PCB DECAL: LQFP176
footprint LQFP176
part A pins: 6 VBAT, 9 PC14, 10 PC15, 14 VSS, 15 VDD, 22 VSS, 23 VDD, 29 PH0, 30 PH1, 31 NRST, 36 VDD, 37 VSSA, 38 VREF+, 39 VDDA, 48 BYPASS_REG, 49 VDD, 58 PB2, 61 VSS, 62 VDD, 71 VSS, 72 VDD, 81 VCAP_1, 82 VDD, 90 VSS, 91 VDD, 102 VSS, 103 VDD, 113 VSS, 114 VDD, 124 PA13, 125 VCAP_2, 126 VSS, 127 VDD, 135 VSS, 136 VDD, 137 PA14, 138 PA15, 148 VSS, 149 VDD, 158 VSS, 159 VDD, 161 PB3, 162 PB4, 166 BOOT0, 171 PDR_ON, 172 VDD
part B pins: 1 PE2, 2 PE3, 3 PE4, 4 PE5, 5 PE6, 7 PI8, 8 PC13, 11 PI9, 12 PI10, 13 PI11, 16 PF0, 17 PF1, 18 PF2, 19 PF3, 20 PF4, 21 PF5, 24 PF6, 25 PF7, 26 PF8, 27 PF9, 28 PF10, 32 PC0, 33 PC1, 34 PC2, 35 PC3, 40 PA0, 41 PA1, 42 PA2, 43 PH2, 44 PH3, 45 PH4, 46 PH5, 47 PA3, 50 PA4, 51 PA5, 52 PA6, 53 PA7, 54 PC4, 55 PC5, 56 PB0, 57 PB1, 59 PF11, 60 PF12, 63 PF13, 64 PF14, 65 PF15, 66 PG0, 67 PG1, 68 PE7, 69 PE8, 70 PE9, 73 PE10, 74 PE11, 75 PE12, 76 PE13, 77 PE14, 78 PE15, 79 PB10, 80 PB11, 83 PH6, 84 PH7, 85 PH8, 86 PH9, 87 PH10, 88 PH11, 89 PH12, 92 PB12, 93 PB13, 94 PB14, 95 PB15, 96 PD8, 97 PD9, 98 PD10, 99 PD11, 100 PD12, 101 PD13, 104 PD14, 105 PD15, 106 PG2, 107 PG3, 108 PG4, 109 PG5, 110 PG6, 111 PG7, 112 PG8, 115 PC6, 116 PC7, 117 PC8, 118 PC9, 119 PA8, 120 PA9, 121 PA10, 122 PA11, 123 PA12, 128 PH13, 129 PH14, 130 PH15, 131 PI0, 132 PI1, 133 PI2, 134 PI3, 139 PC10, 140 PC11, 141 PC12, 142 PD0, 143 PD1, 144 PD2, 145 PD3, 146 PD4, 147 PD5, 150 PD6, 151 PD7, 152 PG9, 153 PG10, 154 PG11, 155 PG12, 156 PG13, 157 PG14, 160 PG15, 163 PB5, 164 PB6, 165 PB7, 167 PB8, 168 PB9, 169 PE0, 170 PE1, 173 PI4, 174 PI5, 175 PI6, 176 PI7

## STN12C5A08S2
designator U?
pins: 1 MOSI/ADC5/P1.5, 2 MISO/ADC6/P1.6, 3 SCLK/ADC7/P1.7, 4 P4.7/RST, 5 ~{INT}/RxD/P3.0, 6 SCLK/TxD2/CCP1/P4.3, 7 TxD/P3.1, 8 ~{INT0}/P3.2, 9 ~{INT1}/P3.3, 10 CLKOUT0~{/INT}/T0/P3.4, 11 CLKOUT1~{/INT}/T1/P3.5, 12 P3.6~{/WR}, 13 P3.7~{/RD}, 14 TXAL2, 15 TXAL1, 16 GND, 17 P4.0/SS, 18 P2.0/A8, 19 P2.1/A9, 20 P2.2/A10, 21 P2.3/A11, 22 P2.4/A12, 23 P2.5/A13, 24 P2.6/A14, 25 P2.7/A15, 26 NA/P4.4, 27 ALE/P4.5, 28 P4.1/ECI/MOSI, 29 EX_LVD/P4.6, 30 P0.7, 31 P0.6, 32 P0.5, 33 P0.4, 34 P0.3, 35 P0.2, 36 P0.1, 37 P0.0, 38 VCC, 39 MISO/RxD2/CCP0/P4.2, 40 CLKOUT2/ADC0/P1.0, 41 ADC1/P1.1, 42 RxD2/ECI/ADC2/P1.2, 43 TXD2/CCP0/ADC3/P1.3, 44 SS/CCP1/ADC4/P1.4

## Switch_LED
designator S1
Switch; Published: 24-Mar-1999; LatestRevisionDate: 17-Jul-2002; LatestRevisionNote: Re-released for DXP Platform.; PackageReference: SPST-2; Publisher: Altium Limited; Value: Switch_LED
footprint SW_10*10_180c_LED
pins: 1, 2, L1 A, L2 K

## TFP410
designator U?, comment TFP410PAP
IC XMTR DVI 25-165MHZ 3.3V HTQFP64; AGILE_PN: 312-75880; MFG_NAME01: TEXAS INSTRUMENTS; CAD_APPROVED: Yes; MFG_PN01: TFP410PAP; ROHS: Yes; HEIGHT: 1.2MM
footprint 64HTQFP
pins: 1 DVDD0 (power), 2 DE (in), 3 VREF (power), 4 HSYNC (in), 5 VSYNC (in), 6 CTL3/A3/DK3 (in), 7 CTL2/A2/DK2 (in), 8 CTL1/A1/DK1 (in), 9 EDGE/HTPLG (in), 10 ~{PD} (in), 11 MSEN/PO1 (oc), 12 DVDD1 (power), 13 ISEL/~{RST} (in), 14 DSEL/SDA (io), 15 BSEL/SCL (in), 16 DGND0 (power), 17 PGND (power), 18 PVDD (power), 19 TFADJ (in), 20 TGND0 (power), 21 TXC- (out), 22 TXC+ (out), 23 TVDD0 (power), 24 TX0- (out), 25 TX0+ (out), 26 TGND1 (power), 27 TX1- (out), 28 TX1+ (out), 29 TVDD1 (power), 30 TX2- (out), 31 TX2+ (out), 32 TGND2 (power), 33 DVDD2 (power), 34 RESERVED, 35 DKEN (in), 36 DATA23 (in), 37 DATA22 (in), 38 DATA21 (in), 39 DATA20 (in), 40 DATA19 (in), 41 DATA18 (in), 42 DATA17 (in), 43 DATA16 (in), 44 DATA15 (in), 45 DATA14 (in), 46 DATA13 (in), 47 DATA12 (in), 48 DGND1 (power), 49 NC, 50 DATA11 (in), 51 DATA10 (in), 52 DATA9 (in), 53 DATA8 (in), 54 DATA7 (in), 55 DATA6 (in), 56 IDCK- (in), 57 IDCK+ (in), 58 DATA5 (in), 59 DATA4 (in), 60 DATA3 (in), 61 DATA2 (in), 62 DATA1 (in), 63 DATA0 (in), 64 DGND2 (power), 65 EX_PAD (power)

## Three_Phase_Bridge
designator D?
pins: 1 A, 2 B, 3 C, 4 +, 5 -

## TLP250
designator U?
pins: 1 NC, 2 +, 3 -, 4 NC, 5 GND, 6 VO, 7 VE, 8 VCC

## TLP521-4
designator U?
pins: 1, 2, 3, 4, 5, 6, 7, 8, 9, 10, 11, 12, 13, 14, 15, 16

## TLV320AIC3104
designator U?
pins: 1 MCLK, 2 BCLK, 3 WCLK, 4 DIN, 5 DOUT, 6 DVSS, 7 IOVDD, 8 SCL, 9 SDA, 10 MIC1LP/LINE1LP, 11 MIC1LM/LINE1LM, 12 MIC1RP/LINE1RP, 13 MIC1RM/LINE1RM, 14 MIC2L/LINE2L/MICDET, 15 MICBIAS, 16 MIC2R/LINE2R, 17 AVSS1, 18 DRVDD, 19 HPLOUT, 20 HPLCOM, 21 DRVSS, 22 HPRCOM, 23 HPROUT, 24 DRVDD, 25 AVDD, 26 AVSS2, 27 LEFT_LOP, 28 LEFT_LOM, 29 RIGHT_LOP, 30 RIGHT_LOM, 31 RESET, 32 DVDD

## TLV7211
designator U?
pins: 1 OUT, 2 VCC, 3 +, 4 -, 5 GND

## TP
designator TP?  (value not drawn)
footprint TP1
pins: 1

## tpa6017a2
designator U?
IC LIN AMP STEREO 2W 4.5-5.5V HTSSOP20; CAD_APPROVED: Yes; MFG_PN01: TPA6017A2PWP; MFG_NAME01: TEXAS INSTRUMENTS; AGILE_PN: 315-78828; HEIGHT: 1.2MM; ROHS: Yes
pins: 1 GNDA (power), 2 GAIN0 (in), 3 GAIN1 (in), 4 LOUT+ (out), 5 LIN- (in), 6 PV_DDA (power), 7 RIN+ (in), 8 LOUT- (out), 9 LIN+ (in), 10 BYPASS (in), 11 GNDB (power), 12 NC, 13 GNDC (power), 14 ROUT- (out), 15 PV_DDB (power), 16 V_DD (power), 17 RIN- (in), 18 ROUT+ (out), 19 ~{SHUTDOWN} (in), 20 GNDD (power), 21 GND_P (power)

## TPS3801-01DCK
designator U?
footprint SC70-5 (SOT-353/SC-88A; 5 Leads; Body 2.2 x 2.4 mm, inc. leads (LxW max))
pins: 1 GND, 2 GND, 3 /RST, 4 VDD, 5 SENSE

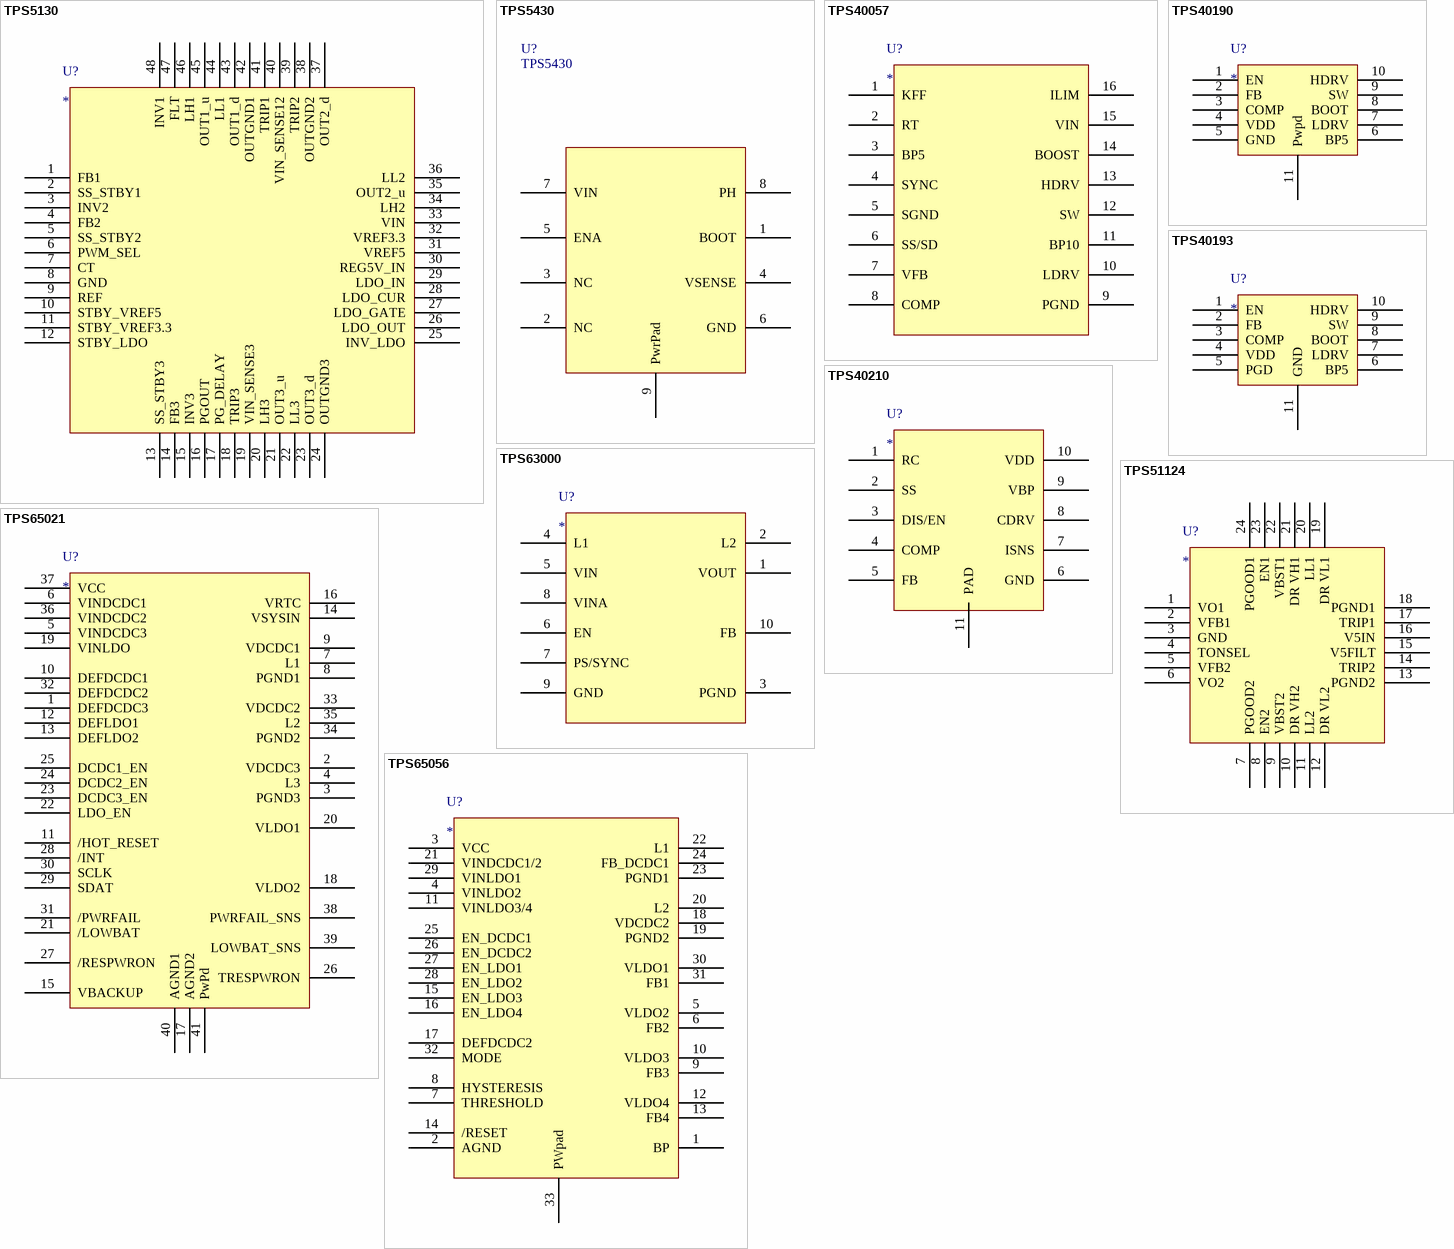
[diagram p46: symbols TPS5130 to TPS65056]

## TPS5130
designator U?
pins: 1 FB1, 2 SS_STBY1, 3 INV2, 4 FB2, 5 SS_STBY2, 6 PWM_SEL, 7 CT, 8 GND, 9 REF, 10 STBY_VREF5, 11 STBY_VREF3.3, 12 STBY_LDO, 13 SS_STBY3, 14 FB3, 15 INV3, 16 PGOUT, 17 PG_DELAY, 18 TRIP3, 19 VIN_SENSE3, 20 LH3, 21 OUT3_u, 22 LL3, 23 OUT3_d, 24 OUTGND3, 25 INV_LDO, 26 LDO_OUT, 27 LDO_GATE, 28 LDO_CUR, 29 LDO_IN, 30 REG5V_IN, 31 VREF5, 32 VREF3.3, 33 VIN, 34 LH2, 35 OUT2_u, 36 LL2, 37 OUT2_d, 38 OUTGND2, 39 TRIP2, 40 VIN_SENSE12, 41 TRIP1, 42 OUTGND1, 43 OUT1_d, 44 LL1, 45 OUT1_u, 46 LH1, 47 FLT, 48 INV1

## TPS5430
designator U?
pins: 1 BOOT, 2 NC, 3 NC, 4 VSENSE, 5 ENA, 6 GND, 7 VIN, 8 PH, 9 PwrPad

## TPS40057
designator U?
pins: 1 KFF, 2 RT, 3 BP5, 4 SYNC, 5 SGND, 6 SS/SD, 7 VFB, 8 COMP, 9 PGND, 10 LDRV, 11 BP10, 12 SW, 13 HDRV, 14 BOOST, 15 VIN, 16 ILIM

## TPS40190
designator U?
pins: 1 EN, 2 FB, 3 COMP, 4 VDD, 5 GND, 6 BP5, 7 LDRV, 8 BOOT, 9 SW, 10 HDRV, 11 Pwpd

## TPS40193
designator U?
footprint SDA10A (SON, 10-Leads, Body 3x3 mm, Pitch 0.5mm, NSC Recommended)
pins: 1 EN, 2 FB, 3 COMP, 4 VDD, 5 PGD, 6 BP5, 7 LDRV, 8 BOOT, 9 SW, 10 HDRV, 11 GND

## TPS40210
designator U?
pins: 1 RC, 2 SS, 3 DIS/EN, 4 COMP, 5 FB, 6 GND, 7 ISNS, 8 CDRV, 9 VBP, 10 VDD, 11 PAD

## TPS51124
designator U?
pins: 1 VO1, 2 VFB1, 3 GND, 4 TONSEL, 5 VFB2, 6 VO2, 7 PGOOD2, 8 EN2, 9 VBST2, 10 DR VH2, 11 LL2, 12 DR VL2, 13 PGND2, 14 TRIP2, 15 V5FILT, 16 V5IN, 17 TRIP1, 18 PGND1, 19 DR VL1, 20 LL1, 21 DR VH1, 22 VBST1, 23 EN1, 24 PGOOD1

## TPS63000
designator U?
pins: 1 VOUT, 2 L2, 3 PGND, 4 L1, 5 VIN, 6 EN, 7 PS/SYNC, 8 VINA, 9 GND, 10 FB

## TPS65021
designator U?
pins: 1 DEFDCDC3, 2 VDCDC3, 3 PGND3, 4 L3, 5 VINDCDC3, 6 VINDCDC1, 7 L1, 8 PGND1, 9 VDCDC1, 10 DEFDCDC1, 11 /HOT_RESET, 12 DEFLDO1, 13 DEFLDO2, 14 VSYSIN, 15 VBACKUP, 16 VRTC, 17 AGND2, 18 VLDO2, 19 VINLDO, 20 VLDO1, 21 /LOWBAT, 22 LDO_EN, 23 DCDC3_EN, 24 DCDC2_EN, 25 DCDC1_EN, 26 TRESPWRON, 27 /RESPWRON, 28 /INT, 29 SDAT, 30 SCLK, 31 /PWRFAIL, 32 DEFDCDC2, 33 VDCDC2, 34 PGND2, 35 L2, 36 VINDCDC2, 37 VCC, 38 PWRFAIL_SNS, 39 LOWBAT_SNS, 40 AGND1, 41 PwPd

## TPS65056
designator U?
pins: 1 BP, 2 AGND, 3 VCC, 4 VINLDO2, 5 VLDO2, 6 FB2, 7 THRESHOLD, 8 HYSTERESIS, 9 FB3, 10 VLDO3, 11 VINLDO3/4, 12 VLDO4, 13 FB4, 14 /RESET, 15 EN_LDO3, 16 EN_LDO4, 17 DEFDCDC2, 18 VDCDC2, 19 PGND2, 20 L2, 21 VINDCDC1/2, 22 L1, 23 PGND1, 24 FB_DCDC1, 25 EN_DCDC1, 26 EN_DCDC2, 27 EN_LDO1, 28 EN_LDO2, 29 VINLDO1, 30 VLDO1, 31 FB1, 32 MODE, 33 PWpad

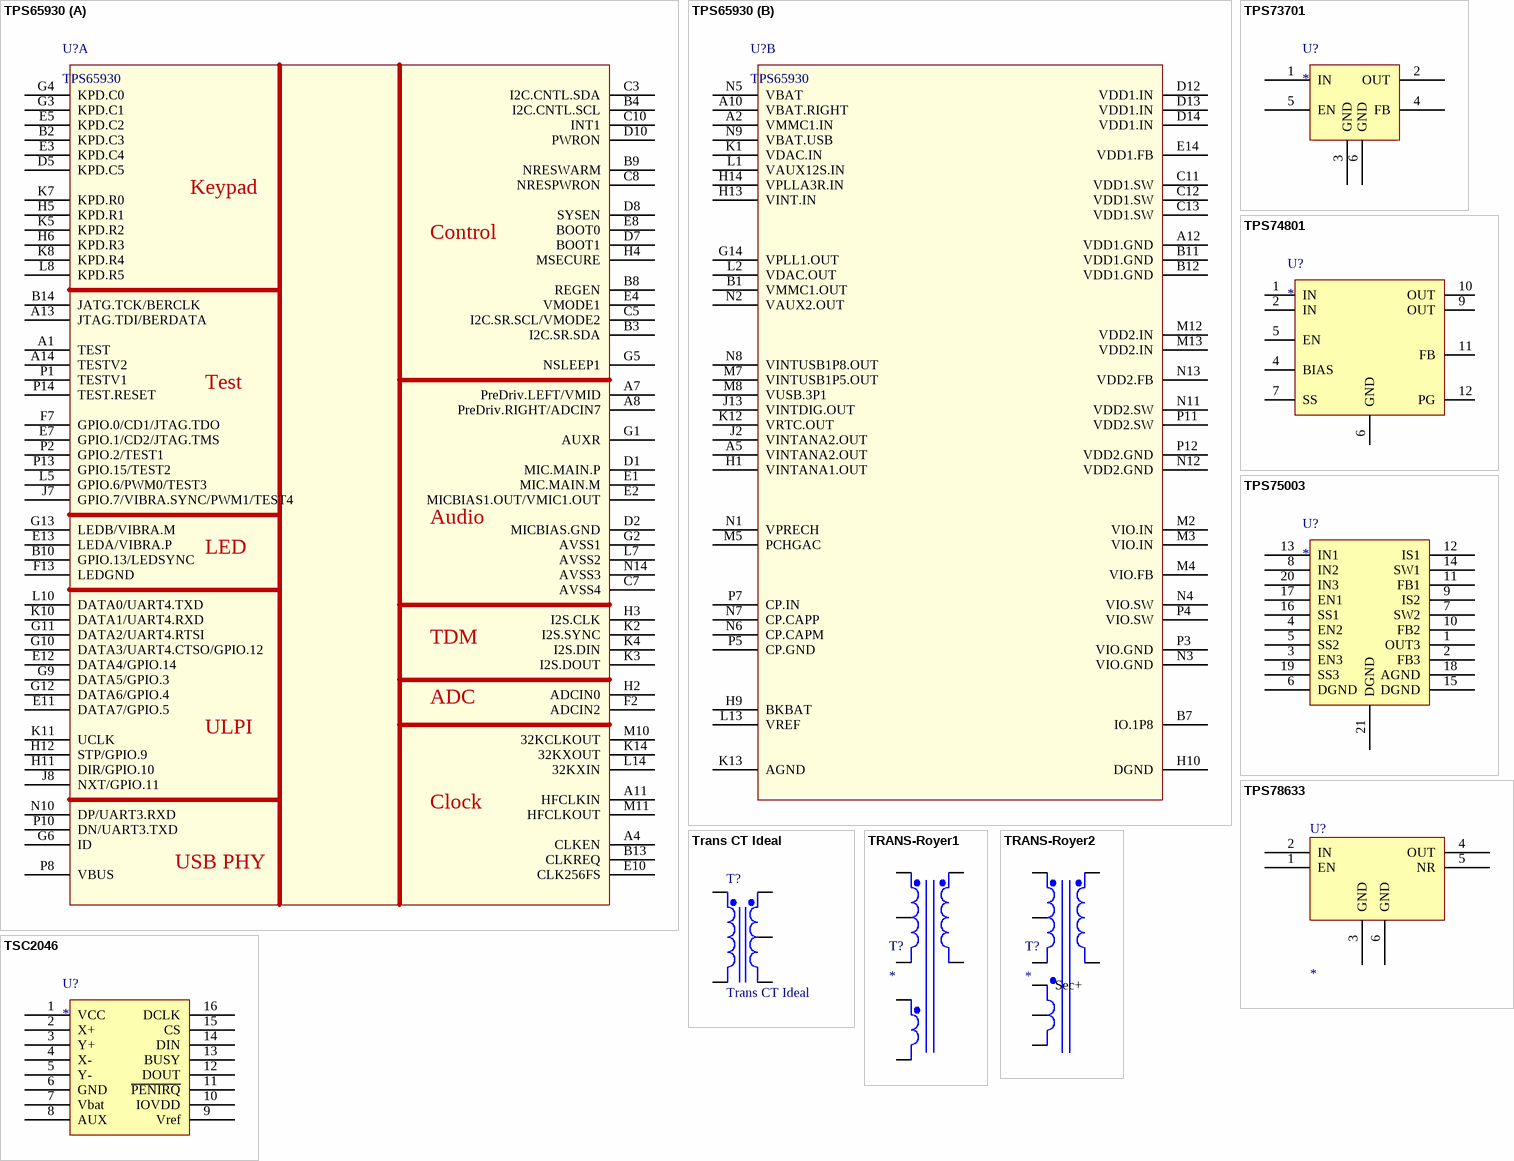
[diagram p47: symbols TPS65930 to TSC2046]

## TPS65930
designator U?
part A pins: A1 TEST, A4 CLKEN, A7 PreDriv.LEFT/VMID, A8 PreDriv.RIGHT/ADCIN7, A11 HFCLKIN, A13 JTAG.TDI/BERDATA, A14 TESTV2, B2 KPD.C3, B3 I2C.SR.SDA, B4 I2C.CNTL.SCL, B8 REGEN, B9 NRESWARM, B10 GPIO.13/LEDSYNC, B13 CLKREQ, B14 JATG.TCK/BERCLK, C3 I2C.CNTL.SDA, C5 I2C.SR.SCL/VMODE2, C7 AVSS4, C8 NRESPWRON, C10 INT1, D1 MIC.MAIN.P, D2 MICBIAS.GND, D5 KPD.C5, D7 BOOT1, D8 SYSEN, D10 PWRON, E1 MIC.MAIN.M, E2 MICBIAS1.OUT/VMIC1.OUT, E3 KPD.C4, E4 VMODE1, E5 KPD.C2, E7 GPIO.1/CD2/JTAG.TMS, E8 BOOT0, E10 CLK256FS, E11 DATA7/GPIO.5, E12 DATA4/GPIO.14, E13 LEDA/VIBRA.P, F2 ADCIN2, F7 GPIO.0/CD1/JTAG.TDO, F13 LEDGND, G1 AUXR, G2 AVSS1, G3 KPD.C1, G4 KPD.C0, G5 NSLEEP1, G6 ID, G9 DATA5/GPIO.3, G10 DATA3/UART4.CTSO/GPIO.12, G11 DATA2/UART4.RTSI, G12 DATA6/GPIO.4, G13 LEDB/VIBRA.M, H2 ADCIN0, H3 I2S.CLK, H4 MSECURE, H5 KPD.R1, H6 KPD.R3, H11 DIR/GPIO.10, H12 STP/GPIO.9, J7 GPIO.7/VIBRA.SYNC/PWM1/TEST4, J8 NXT/GPIO.11, K2 I2S.SYNC, K3 I2S.DOUT, K4 I2S.DIN, K5 KPD.R2, K7 KPD.R0, K8 KPD.R4, K10 DATA1/UART4.RXD, K11 UCLK, K14 32KXOUT, L5 GPIO.6/PWM0/TEST3, L7 AVSS2, L8 KPD.R5, L10 DATA0/UART4.TXD, L14 32KXIN, M10 32KCLKOUT, M11 HFCLKOUT, N10 DP/UART3.RXD, N14 AVSS3, P1 TESTV1, P2 GPIO.2/TEST1, P8 VBUS, P10 DN/UART3.TXD, P13 GPIO.15/TEST2, P14 TEST.RESET
part B pins: A2 VMMC1.IN, A5 VINTANA2.OUT, A10 VBAT.RIGHT, A12 VDD1.GND, B1 VMMC1.OUT, B7 IO.1P8, B11 VDD1.GND, B12 VDD1.GND, C11 VDD1.SW, C12 VDD1.SW, C13 VDD1.SW, D12 VDD1.IN, D13 VDD1.IN, D14 VDD1.IN, E14 VDD1.FB, G14 VPLL1.OUT, H1 VINTANA1.OUT, H9 BKBAT, H10 DGND, H13 VINT.IN, H14 VPLLA3R.IN, J2 VINTANA2.OUT, J13 VINTDIG.OUT, K1 VDAC.IN, K12 VRTC.OUT, K13 AGND, L1 VAUX12S.IN, L2 VDAC.OUT, L13 VREF, M2 VIO.IN, M3 VIO.IN, M4 VIO.FB, M5 PCHGAC, M7 VINTUSB1P5.OUT, M8 VUSB.3P1, M12 VDD2.IN, M13 VDD2.IN, N1 VPRECH, N2 VAUX2.OUT, N3 VIO.GND, N4 VIO.SW, N5 VBAT, N6 CP.CAPM, N7 CP.CAPP, N8 VINTUSB1P8.OUT, N9 VBAT.USB, N11 VDD2.SW, N12 VDD2.GND, N13 VDD2.FB, P3 VIO.GND, P4 VIO.SW, P5 CP.GND, P7 CP.IN, P11 VDD2.SW, P12 VDD2.GND
part A text: Keypad; Control; Test; Audio; LED; TDM; ADC; ULPI; Clock; USB PHY

## TPS73701
designator U?
footprint SOT223-6 (SOT223, 5-Leads, Body 6.5x3.5mm, Pitch 1.5mm, Lead Span 7mm, IPC Medium Density)
pins: 1 IN, 2 OUT, 3 GND, 4 FB, 5 EN, 6 GND

## TPS74801
designator U?
pins: 1 IN, 2 IN, 4 BIAS, 5 EN, 6 GND, 7 SS, 9 OUT, 10 OUT, 11 FB, 12 PG

## TPS75003
designator U?
pins: 1 OUT3, 2 FB3, 3 EN3, 4 EN2, 5 SS2, 6 DGND, 7 SW2, 8 IN2, 9 IS2, 10 FB2, 11 FB1, 12 IS1, 13 IN1, 14 SW1, 15 DGND, 16 SS1, 17 EN1, 18 AGND, 19 SS3, 20 IN3, 21 DGND

## TPS78633
designator U?
pins: 1 EN, 2 IN, 3 GND, 4 OUT, 5 NR, 6 GND

## Trans CT Ideal
designator T?
Center-Tapped Transformer (Ideal); Published: 8-Jun-2000; LatestRevisionDate: 17-Jul-2002; LatestRevisionNote: Re-released for DXP Platform.; PackageReference: TRF_5; Publisher: Altium Limited; PackageDescription: Transformer; 5 Leads
footprint TRF_5 (Transformer; 5 Leads)
simulation model IDEALTRANSCT (Spice Subcircuit)
pins: 1 Pri+, 2 Pri-, 3 Sec+, 4 SecCT, 5 Sec-

## TRANS-Royer1
designator T?
pins: 1 Pri+, 2 Pri-, 3 Sec+, 4 SecCT, 5 Sec-, 6 Pri+, 7 Pri-

## TRANS-Royer2
designator T?
pins: 1 Sec+, 2 SecCT, 3 Sec-, 4 Sec+, 5 SecCT, 6 Sec-, 7 Pri+, 8 Pri-

## TSC2046
designator U?
pins: 1 VCC, 2 X+, 3 Y+, 4 X-, 5 Y-, 6 GND, 7 Vbat, 8 AUX, 9 Vref, 10 IOVDD, 11 ~{PENIRQ}, 12 DOUT, 13 BUSY, 14 DIN, 15 CS, 16 DCLK

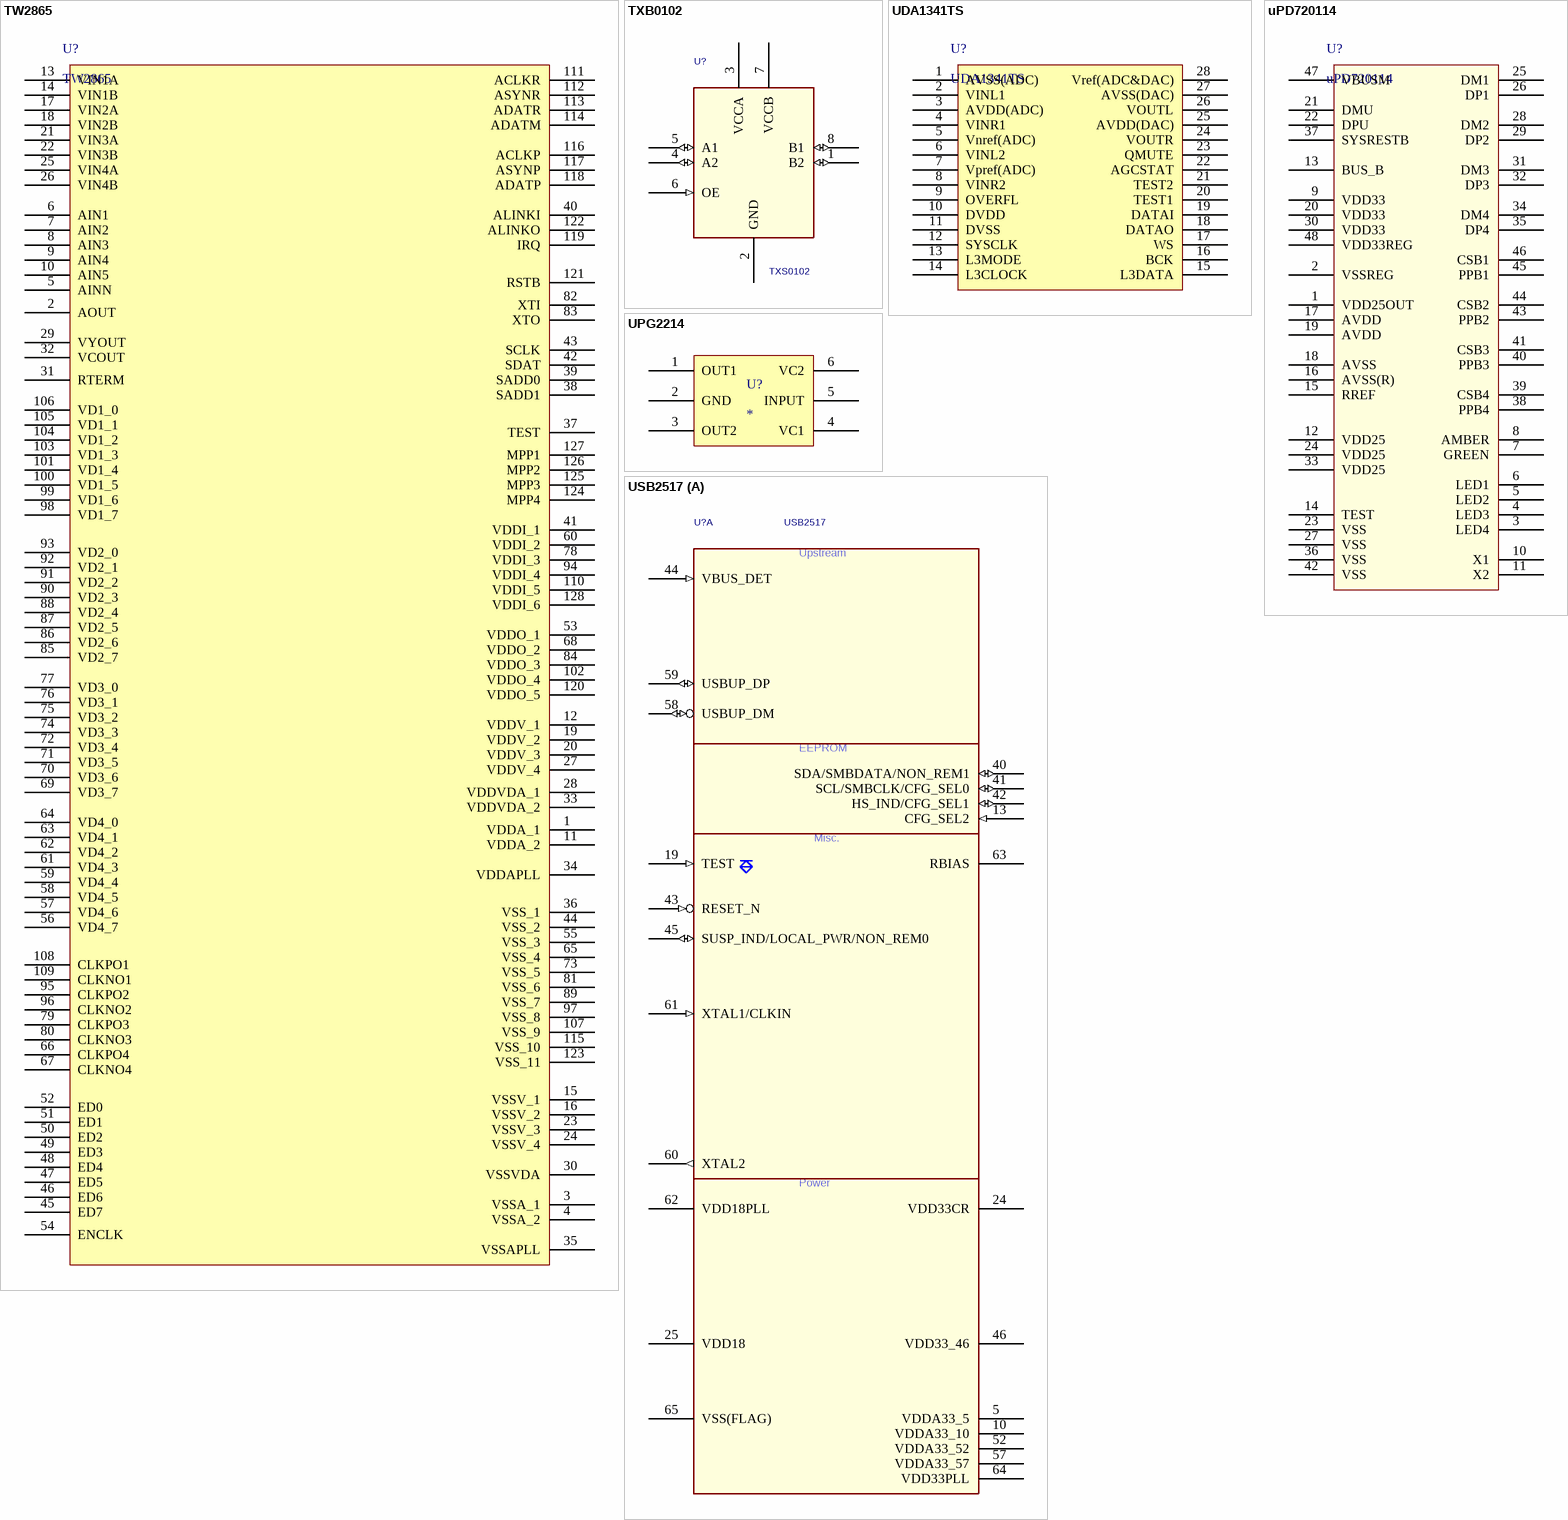
[diagram p48: symbols TW2865 to USB2517]

## TW2865
designator U?
pins: 1 VDDA_1, 2 AOUT, 3 VSSA_1, 4 VSSA_2, 5 AINN, 6 AIN1, 7 AIN2, 8 AIN3, 9 AIN4, 10 AIN5, 11 VDDA_2, 12 VDDV_1, 13 VIN1A, 14 VIN1B, 15 VSSV_1, 16 VSSV_2, 17 VIN2A, 18 VIN2B, 19 VDDV_2, 20 VDDV_3, 21 VIN3A, 22 VIN3B, 23 VSSV_3, 24 VSSV_4, 25 VIN4A, 26 VIN4B, 27 VDDV_4, 28 VDDVDA_1, 29 VYOUT, 30 VSSVDA, 31 RTERM, 32 VCOUT, 33 VDDVDA_2, 34 VDDAPLL, 35 VSSAPLL, 36 VSS_1, 37 TEST, 38 SADD1, 39 SADD0, 40 ALINKI, 41 VDDI_1, 42 SDAT, 43 SCLK, 44 VSS_2, 45 ED7, 46 ED6, 47 ED5, 48 ED4, 49 ED3, 50 ED2, 51 ED1, 52 ED0, 53 VDDO_1, 54 ENCLK, 55 VSS_3, 56 VD4_7, 57 VD4_6, 58 VD4_5, 59 VD4_4, 60 VDDI_2, 61 VD4_3, 62 VD4_2, 63 VD4_1, 64 VD4_0, 65 VSS_4, 66 CLKPO4, 67 CLKNO4, 68 VDDO_2, 69 VD3_7, 70 VD3_6, 71 VD3_5, 72 VD3_4, 73 VSS_5, 74 VD3_3, 75 VD3_2, 76 VD3_1, 77 VD3_0, 78 VDDI_3, 79 CLKPO3, 80 CLKNO3, 81 VSS_6, 82 XTI, 83 XTO, 84 VDDO_3, 85 VD2_7, 86 VD2_6, 87 VD2_5, 88 VD2_4, 89 VSS_7, 90 VD2_3, 91 VD2_2, 92 VD2_1, 93 VD2_0, 94 VDDI_4, 95 CLKPO2, 96 CLKNO2, 97 VSS_8, 98 VD1_7, 99 VD1_6, 100 VD1_5, 101 VD1_4, 102 VDDO_4, 103 VD1_3, 104 VD1_2, 105 VD1_1, 106 VD1_0, 107 VSS_9, 108 CLKPO1, 109 CLKNO1, 110 VDDI_5, 111 ACLKR, 112 ASYNR, 113 ADATR, 114 ADATM, 115 VSS_10, 116 ACLKP, 117 ASYNP, 118 ADATP, 119 IRQ, 120 VDDO_5, 121 RSTB, 122 ALINKO, 123 VSS_11, 124 MPP4, 125 MPP3, 126 MPP2, 127 MPP1, 128 VDDI_6

## TXB0102
designator U?, comment TXS0102
IC BI VXLTR 2BIT 1.65-3.6V/2.3-5.5V SSOP8; CAD_APPROVED: Yes; MFG_PN01: TXS0102DCTT; MFG_NAME01: TEXAS INSTRUMENTS; AGILE_PN: 315-78943; HEIGHT: 1.3MM; ROHS: Yes
pins: 1 B2 (io), 2 GND (power), 3 VCCA (power), 4 A2 (io), 5 A1 (io), 6 OE (in), 7 VCCB (power), 8 B1 (io)

## UDA1341TS
designator U?
pins: 1 AVSS(ADC), 2 VINL1, 3 AVDD(ADC), 4 VINR1, 5 Vnref(ADC), 6 VINL2, 7 Vpref(ADC), 8 VINR2, 9 OVERFL, 10 DVDD, 11 DVSS, 12 SYSCLK, 13 L3MODE, 14 L3CLOCK, 15 L3DATA, 16 BCK, 17 WS, 18 DATAO, 19 DATAI, 20 TEST1, 21 TEST2, 22 AGCSTAT, 23 QMUTE, 24 VOUTR, 25 AVDD(DAC), 26 VOUTL, 27 AVSS(DAC), 28 Vref(ADC&DAC)

## uPD720114
designator U?
pins: 1 VDD25OUT, 2 VSSREG, 3 LED4, 4 LED3, 5 LED2, 6 LED1, 7 GREEN, 8 AMBER, 9 VDD33, 10 X1, 11 X2, 12 VDD25, 13 BUS_B, 14 TEST, 15 RREF, 16 AVSS(R), 17 AVDD, 18 AVSS, 19 AVDD, 20 VDD33, 21 DMU, 22 DPU, 23 VSS, 24 VDD25, 25 DM1, 26 DP1, 27 VSS, 28 DM2, 29 DP2, 30 VDD33, 31 DM3, 32 DP3, 33 VDD25, 34 DM4, 35 DP4, 36 VSS, 37 SYSRESTB, 38 PPB4, 39 CSB4, 40 PPB3, 41 CSB3, 42 VSS, 43 PPB2, 44 CSB2, 45 PPB1, 46 CSB1, 47 VBUSM, 48 VDD33REG

## UPG2214
designator U?
pins: 1 OUT1, 2 GND, 3 OUT2, 4 VC1, 5 INPUT, 6 VC2

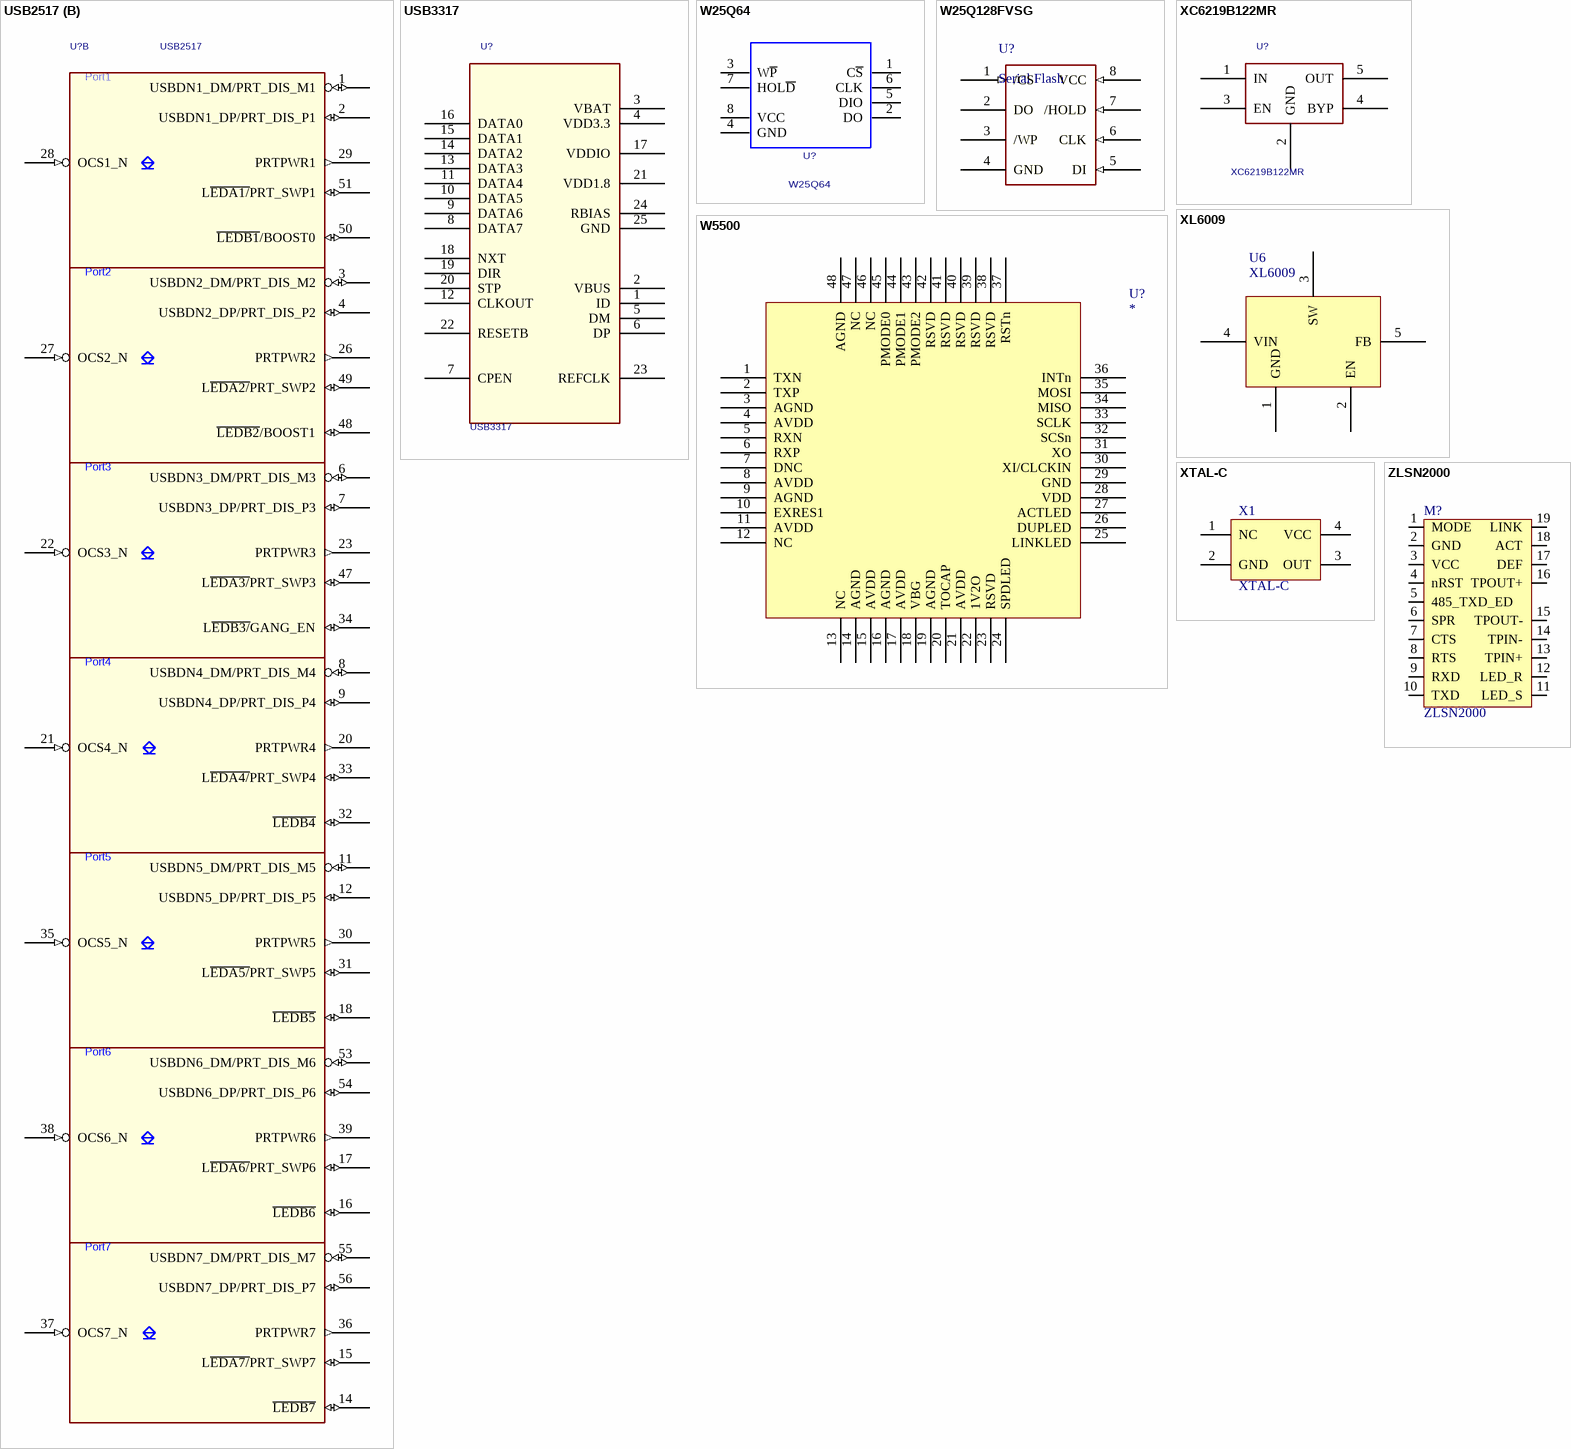
[diagram p49: symbols USB2517 to ZLSN2000]

## USB2517
designator U?
IC CTLER USB 2.0 HUB 3.3V QFN64; CAD_APPROVED: Yes; MFG_PN01: USB2517_JZX; MFG_NAME01: SMSC; AGILE_PN: 312-79555; HEIGHT: 1MM; ROHS: Yes
part A pins: 5 VDDA33_5 (power), 10 VDDA33_10 (power), 13 CFG_SEL2 (in), 19 TEST (in), 24 VDD33CR (power), 25 VDD18 (power), 40 SDA/SMBDATA/NON_REM1 (io), 41 SCL/SMBCLK/CFG_SEL0 (io), 42 HS_IND/CFG_SEL1 (io), 43 RESET_N (in), 44 VBUS_DET (in), 45 SUSP_IND/LOCAL_PWR/NON_REM0 (io), 46 VDD33_46 (power), 52 VDDA33_52 (power), 57 VDDA33_57 (power), 58 USBUP_DM (io), 59 USBUP_DP (io), 60 XTAL2 (out), 61 XTAL1/CLKIN (in), 62 VDD18PLL (power), 63 RBIAS, 64 VDD33PLL (power), 65 VSS(FLAG) (power)
part B pins: 1 USBDN1_DM/PRT_DIS_M1 (io), 2 USBDN1_DP/PRT_DIS_P1 (io), 3 USBDN2_DM/PRT_DIS_M2 (io), 4 USBDN2_DP/PRT_DIS_P2 (io), 6 USBDN3_DM/PRT_DIS_M3 (io), 7 USBDN3_DP/PRT_DIS_P3 (io), 8 USBDN4_DM/PRT_DIS_M4 (io), 9 USBDN4_DP/PRT_DIS_P4 (io), 11 USBDN5_DM/PRT_DIS_M5 (io), 12 USBDN5_DP/PRT_DIS_P5 (io), 14 ~{LEDB7} (io), 15 L~{EDA7/}PRT_SWP7 (io), 16 ~{LEDB6} (io), 17 L~{EDA6/}PRT_SWP6 (io), 18 ~{LEDB5} (io), 20 PRTPWR4 (out), 21 OCS4_N (in), 22 OCS3_N (in), 23 PRTPWR3 (out), 26 PRTPWR2 (out), 27 OCS2_N (in), 28 OCS1_N (in), 29 PRTPWR1 (out), 30 PRTPWR5 (out), 31 L~{EDA5/}PRT_SWP5 (io), 32 ~{LEDB4} (io), 33 L~{EDA4/}PRT_SWP4 (io), 34 L~{EDB3/}GANG_EN (io), 35 OCS5_N (in), 36 PRTPWR7 (out), 37 OCS7_N (in), 38 OCS6_N (in), 39 PRTPWR6 (out), 47 L~{EDA3/}PRT_SWP3 (io), 48 ~{LEDB2}/BOOST1 (io), 49 L~{EDA2/}PRT_SWP2 (io), 50 ~{LEDB1}/BOOST0 (io), 51 L~{EDA1/}PRT_SWP1 (io), 53 USBDN6_DM/PRT_DIS_M6 (io), 54 USBDN6_DP/PRT_DIS_P6 (io), 55 USBDN7_DM/PRT_DIS_M7 (io), 56 USBDN7_DP/PRT_DIS_P7 (io)
part A text: Upstream; EEPROM; Misc.; Power
part B text: Port1; Port2; Port3; Port4; Port5; Port6; Port7

## USB3317
designator U?
IC XCVR USB 2.0 1.8-3.3V QFN24; CAD_APPROVED: Yes; MFG_PN01: USB3317-CP-TR; MFG_NAME01: SMSC; AGILE_PN: 312-77059; HEIGHT: 1.0MM; ROHS: Yes
pins: 1 ID, 2 VBUS, 3 VBAT (power), 4 VDD3.3 (power), 5 DM, 6 DP, 7 CPEN, 8 DATA7, 9 DATA6, 10 DATA5, 11 DATA4, 12 CLKOUT, 13 DATA3, 14 DATA2, 15 DATA1, 16 DATA0, 17 VDDIO (power), 18 NXT, 19 DIR, 20 STP, 21 VDD1.8 (power), 22 RESETB, 23 REFCLK, 24 RBIAS, 25 GND (power)

## W25Q64
designator U?
PCB DECAL: W25X16
footprint W25X16
pins: 1 C~{S}, 2 DO, 3 W~{P}, 4 GND, 5 DIO, 6 CLK, 7 HOL~{D}, 8 VCC

## W25Q128FVSG
designator U?, comment Serial Flash
Value: W25Q128FVSG
pins: 1 /CS (in), 2 DO, 3 /WP, 4 GND, 5 DI (in), 6 CLK (in), 7 /HOLD (in), 8 VCC (in)

## W5500
designator U?
W5500以太网芯片
footprint LQFP48
pins: 1 TXN, 2 TXP, 3 AGND, 4 AVDD, 5 RXN, 6 RXP, 7 DNC, 8 AVDD, 9 AGND, 10 EXRES1, 11 AVDD, 12 NC, 13 NC, 14 AGND, 15 AVDD, 16 AGND, 17 AVDD, 18 VBG, 19 AGND, 20 TOCAP, 21 AVDD, 22 1V2O, 23 RSVD, 24 SPDLED, 25 LINKLED, 26 DUPLED, 27 ACTLED, 28 VDD, 29 GND, 30 XI/CLCKIN, 31 XO, 32 SCSn, 33 SCLK, 34 MISO, 35 MOSI, 36 INTn, 37 RSTn, 38 RSVD, 39 RSVD, 40 RSVD, 41 RSVD, 42 RSVD, 43 PMODE2, 44 PMODE1, 45 PMODE0, 46 NC, 47 NC, 48 AGND
2 alternate drawings of the same symbol

## XC6219B122MR
designator U?
ROOM: 15
pins: 1 IN, 2 GND, 3 EN, 4 BYP, 5 OUT

## XL6009
designator U6
footprint TO-263-5 (D2-PAK, 6-Leads, Body 8.6x10.2mm, Pitch 1.7mm, Lead Span 14.1mm, IPC Medium Density)
pins: 1 GND, 2 EN, 3 SW, 4 VIN, 5 FB

## XTAL-C
designator X1
pins: 1 NC, 2 GND, 3 OUT, 4 VCC

## ZLSN2000
designator M?
pins: 1 MODE, 2 GND, 3 VCC, 4 nRST, 5 485_TXD_ED, 6 SPR, 7 CTS, 8 RTS, 9 RXD, 10 TXD, 11 LED_S, 12 LED_R, 13 TPIN+, 14 TPIN-, 15 TPOUT-, 16 TPOUT+, 17 DEF, 18 ACT, 19 LINK